# Altium integrated library Maxim Microcontroller.IntLib: 169 symbols (part 2 of 6)
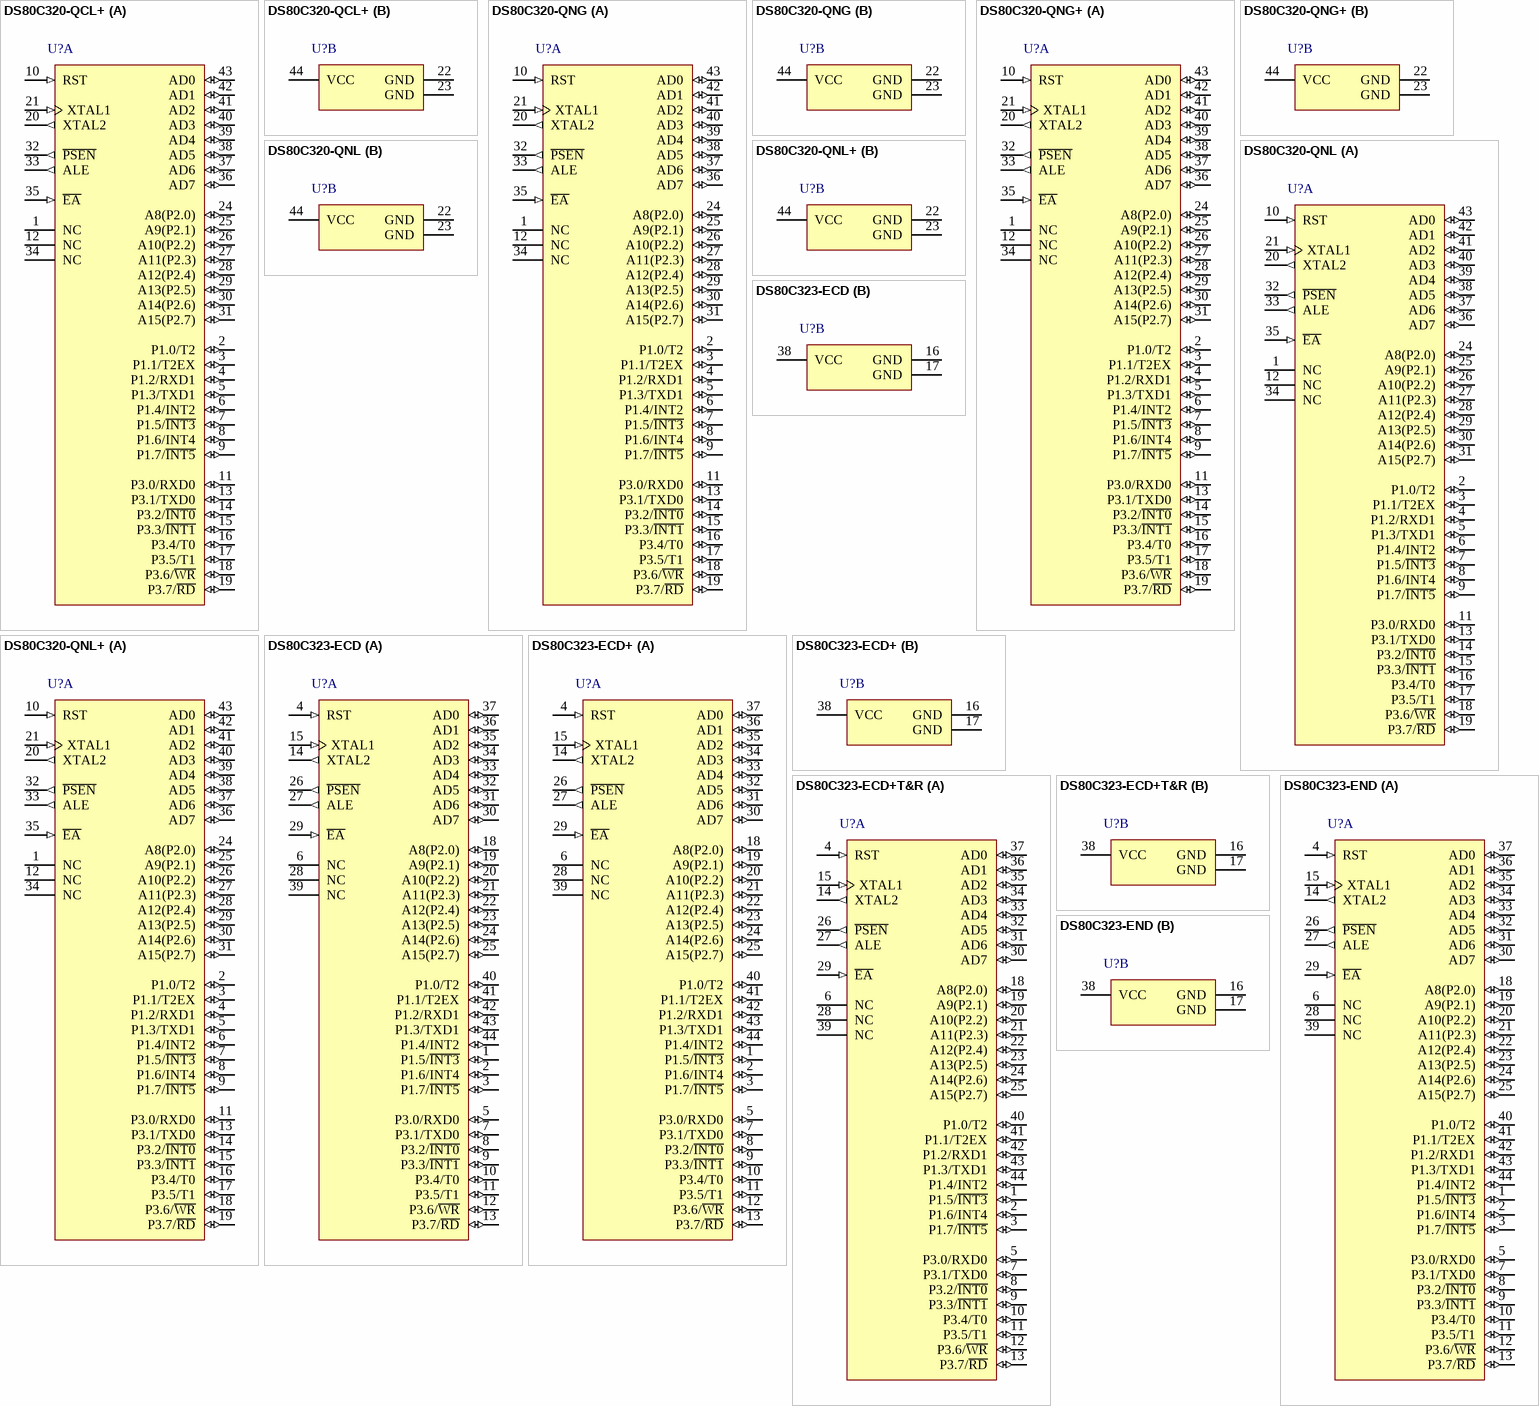
[diagram p25: symbols DS80C320-QCL+ to DS80C323-END]

## DS80C323-ECD+
designator U?
8-bit High-Speed/Low-Power Microcontroller, 18 MHz Max. Clock Speed, 44-pin TQFP, 0° to + 70° C, Pb-Free; DatasheetVersion: 1/05/2009; PackageVersion: revB, 2010; PackageReference: C44+2; PackageDescription: 44-Pin Thin Quad Flatpack, 10 x 10 x 1.0 mm Body, 0.8 mm Pitch, TQFP, Pb-Free; ComponentLink1Description: Manufacturer URL; ComponentLink1URL: www.maxim-ic.com; ComponentLink2Description: Datasheet; ComponentLink2URL: http://datasheets.maxim-ic.com/en/ds/DS80C320-DS80C323.pdf
footprint C44+2_N (Thin QFP, 44-Leads, Body 10x10mm, Pitch 0.8mm, IPC Medium Density)
footprint C44+2_L (Thin QFP, 44-Leads, Body 10x10mm, Pitch 0.8mm, IPC High Density)
footprint C44+2_M (Thin QFP, 44-Leads, Body 10x10mm, Pitch 0.8mm, IPC Low Density)
part A pins: 1 P1.5/~{INT3} (io), 2 P1.6/INT4 (io), 3 P1.7/~{INT5} (io), 4 RST (in), 5 P3.0/RXD0 (io), 6 NC, 7 P3.1/TXD0 (io), 8 P3.2/~{INT0} (io), 9 P3.3/~{INT1} (io), 10 P3.4/T0 (io), 11 P3.5/T1 (io), 12 P3.6/~{WR} (io), 13 P3.7/~{RD} (io), 14 XTAL2 (out), 15 XTAL1 (in), 18 A8(P2.0) (io), 19 A9(P2.1) (io), 20 A10(P2.2) (io), 21 A11(P2.3) (io), 22 A12(P2.4) (io), 23 A13(P2.5) (io), 24 A14(P2.6) (io), 25 A15(P2.7) (io), 26 ~{PSEN} (out), 27 ALE (out), 28 NC, 29 ~{EA} (in), 30 AD7 (io), 31 AD6 (io), 32 AD5 (io), 33 AD4 (io), 34 AD3 (io), 35 AD2 (io), 36 AD1 (io), 37 AD0 (io), 39 NC, 40 P1.0/T2 (io), 41 P1.1/T2EX (io), 42 P1.2/RXD1 (io), 43 P1.3/TXD1 (io), 44 P1.4/INT2 (io)
part B pins: 16 GND (power), 17 GND (power), 38 VCC (power)

## DS80C323-ECD+T&R
designator U?
8-bit High-Speed/Low-Power Microcontroller, 18 MHz Max. Clock Speed, 44-pin TQFP, 0° to + 70° C, Pb-Free, Tape and Reel; DatasheetVersion: 1/05/2009; PackageVersion: revB, 2010; PackageReference: C44+2; PackageDescription: 44-Pin Thin Quad Flatpack, 10 x 10 x 1.0 mm Body, 0.8 mm Pitch, TQFP, Pb-Free; ComponentLink1Description: Manufacturer URL; ComponentLink1URL: www.maxim-ic.com; ComponentLink2Description: Datasheet; ComponentLink2URL: http://datasheets.maxim-ic.com/en/ds/DS80C320-DS80C323.pdf
footprint C44+2_N (Thin QFP, 44-Leads, Body 10x10mm, Pitch 0.8mm, IPC Medium Density)
footprint C44+2_L (Thin QFP, 44-Leads, Body 10x10mm, Pitch 0.8mm, IPC High Density)
footprint C44+2_M (Thin QFP, 44-Leads, Body 10x10mm, Pitch 0.8mm, IPC Low Density)
part A pins: 1 P1.5/~{INT3} (io), 2 P1.6/INT4 (io), 3 P1.7/~{INT5} (io), 4 RST (in), 5 P3.0/RXD0 (io), 6 NC, 7 P3.1/TXD0 (io), 8 P3.2/~{INT0} (io), 9 P3.3/~{INT1} (io), 10 P3.4/T0 (io), 11 P3.5/T1 (io), 12 P3.6/~{WR} (io), 13 P3.7/~{RD} (io), 14 XTAL2 (out), 15 XTAL1 (in), 18 A8(P2.0) (io), 19 A9(P2.1) (io), 20 A10(P2.2) (io), 21 A11(P2.3) (io), 22 A12(P2.4) (io), 23 A13(P2.5) (io), 24 A14(P2.6) (io), 25 A15(P2.7) (io), 26 ~{PSEN} (out), 27 ALE (out), 28 NC, 29 ~{EA} (in), 30 AD7 (io), 31 AD6 (io), 32 AD5 (io), 33 AD4 (io), 34 AD3 (io), 35 AD2 (io), 36 AD1 (io), 37 AD0 (io), 39 NC, 40 P1.0/T2 (io), 41 P1.1/T2EX (io), 42 P1.2/RXD1 (io), 43 P1.3/TXD1 (io), 44 P1.4/INT2 (io)
part B pins: 16 GND (power), 17 GND (power), 38 VCC (power)

## DS80C323-END
designator U?
8-bit High-Speed/Low-Power Microcontroller, 18 MHz Max. Clock Speed, 44-pin TQFP, -40° to + 85° C; DatasheetVersion: 1/05/2009; PackageVersion: revB, 2010; PackageReference: C44-2; PackageDescription: 44-Pin Thin Quad Flatpack, 10 x 10 x 1.0 mm Body, 0.8 mm Pitch, TQFP; ComponentLink1Description: Manufacturer URL; ComponentLink1URL: www.maxim-ic.com; ComponentLink2Description: Datasheet; ComponentLink2URL: http://datasheets.maxim-ic.com/en/ds/DS80C320-DS80C323.pdf
footprint C44-2_N (Thin QFP, 44-Leads, Body 10x10mm, Pitch 0.8mm, IPC Medium Density)
footprint C44-2_L (Thin QFP, 44-Leads, Body 10x10mm, Pitch 0.8mm, IPC High Density)
footprint C44-2_M (Thin QFP, 44-Leads, Body 10x10mm, Pitch 0.8mm, IPC Low Density)
part A pins: 1 P1.5/~{INT3} (io), 2 P1.6/INT4 (io), 3 P1.7/~{INT5} (io), 4 RST (in), 5 P3.0/RXD0 (io), 6 NC, 7 P3.1/TXD0 (io), 8 P3.2/~{INT0} (io), 9 P3.3/~{INT1} (io), 10 P3.4/T0 (io), 11 P3.5/T1 (io), 12 P3.6/~{WR} (io), 13 P3.7/~{RD} (io), 14 XTAL2 (out), 15 XTAL1 (in), 18 A8(P2.0) (io), 19 A9(P2.1) (io), 20 A10(P2.2) (io), 21 A11(P2.3) (io), 22 A12(P2.4) (io), 23 A13(P2.5) (io), 24 A14(P2.6) (io), 25 A15(P2.7) (io), 26 ~{PSEN} (out), 27 ALE (out), 28 NC, 29 ~{EA} (in), 30 AD7 (io), 31 AD6 (io), 32 AD5 (io), 33 AD4 (io), 34 AD3 (io), 35 AD2 (io), 36 AD1 (io), 37 AD0 (io), 39 NC, 40 P1.0/T2 (io), 41 P1.1/T2EX (io), 42 P1.2/RXD1 (io), 43 P1.3/TXD1 (io), 44 P1.4/INT2 (io)
part B pins: 16 GND (power), 17 GND (power), 38 VCC (power)

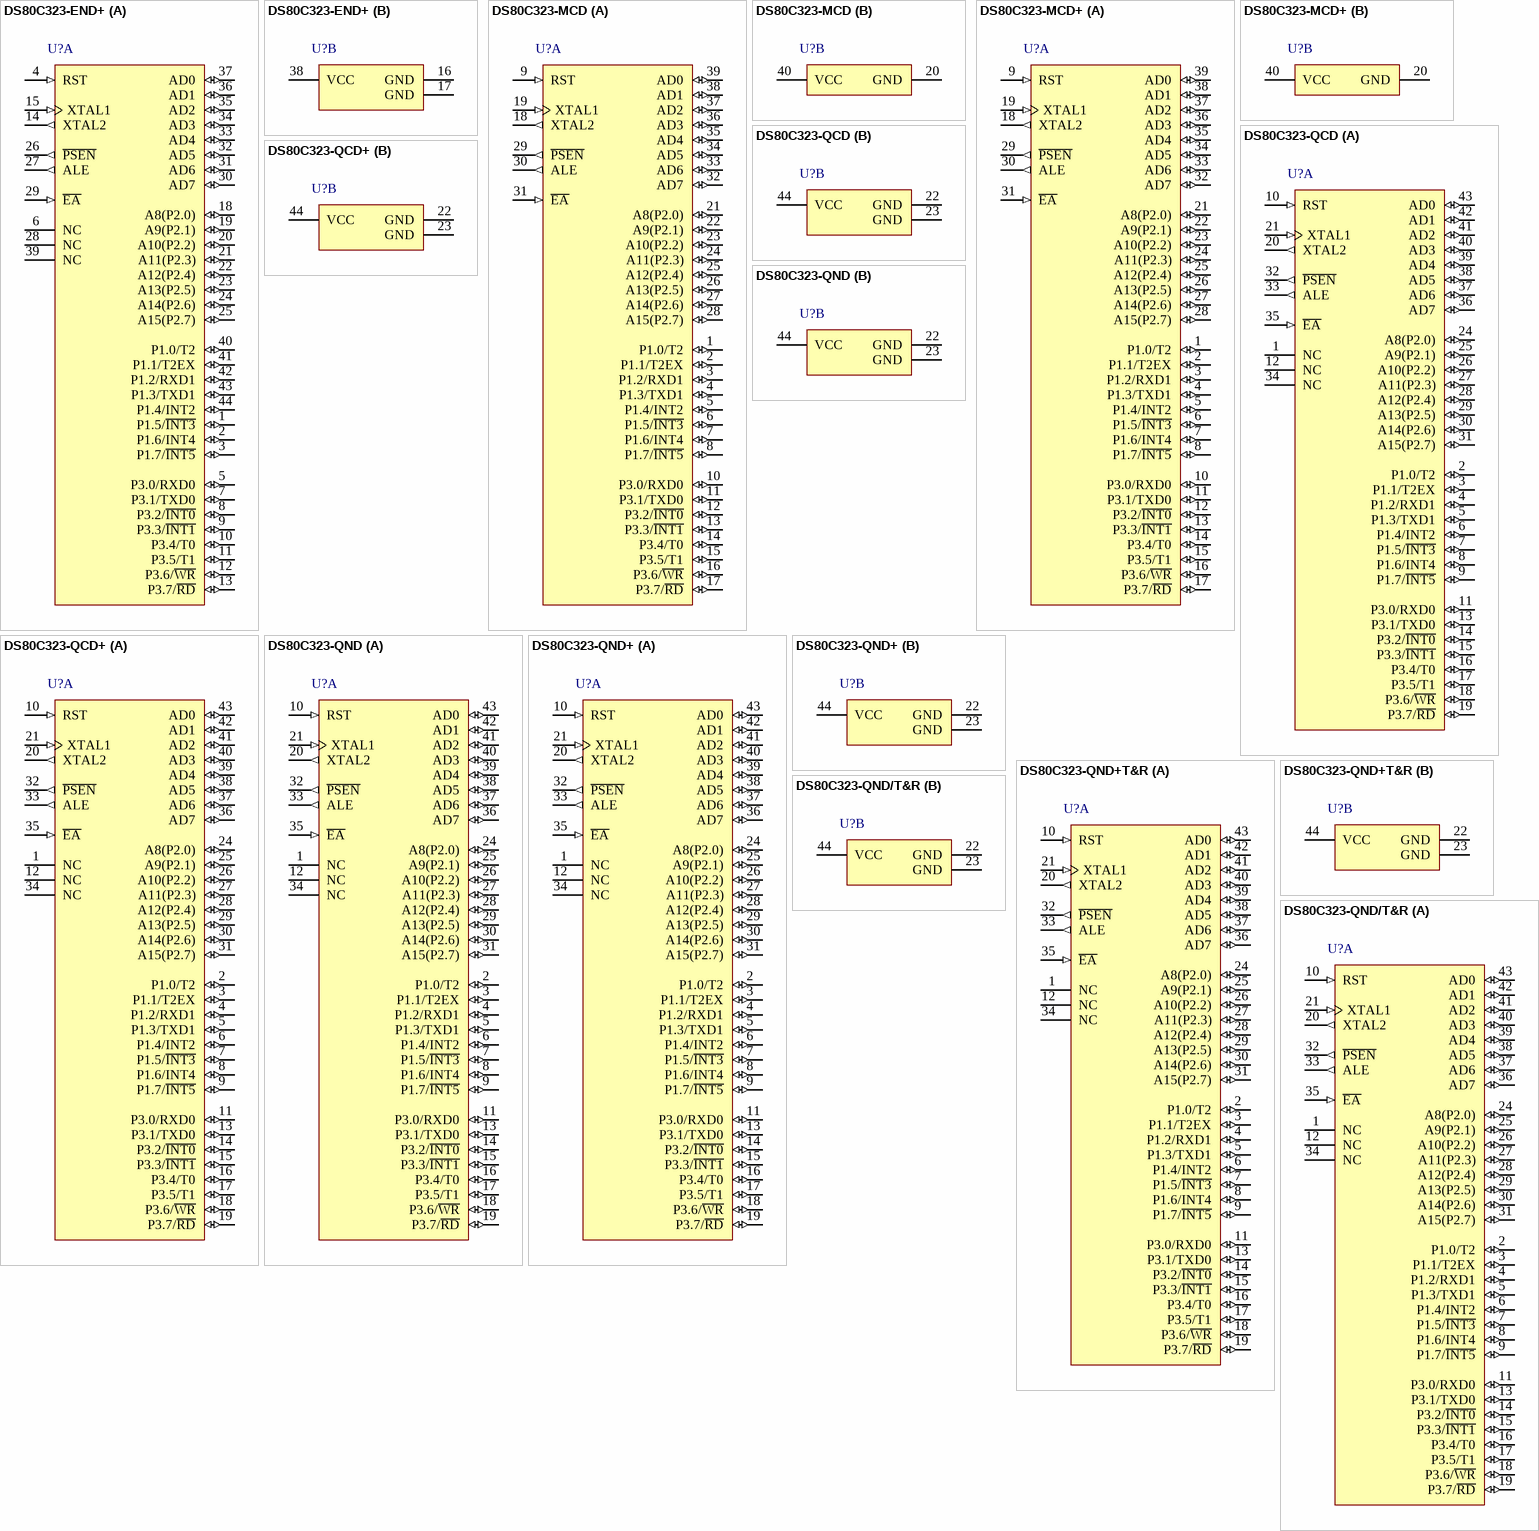
[diagram p4: symbols DS80C323-END+ to DS80C323-QND/T&R]

## DS80C323-END+
designator U?
8-bit High-Speed/Low-Power Microcontroller, 18 MHz Max. Clock Speed, 44-pin TQFP, -40° to + 85° C, Pb-Free; DatasheetVersion: 1/05/2009; PackageVersion: revB, 2010; PackageReference: C44+2; PackageDescription: 44-Pin Thin Quad Flatpack, 10 x 10 x 1.0 mm Body, 0.8 mm Pitch, TQFP, Pb-Free; ComponentLink1Description: Manufacturer URL; ComponentLink1URL: www.maxim-ic.com; ComponentLink2Description: Datasheet; ComponentLink2URL: http://datasheets.maxim-ic.com/en/ds/DS80C320-DS80C323.pdf
footprint C44+2_N (Thin QFP, 44-Leads, Body 10x10mm, Pitch 0.8mm, IPC Medium Density)
footprint C44+2_L (Thin QFP, 44-Leads, Body 10x10mm, Pitch 0.8mm, IPC High Density)
footprint C44+2_M (Thin QFP, 44-Leads, Body 10x10mm, Pitch 0.8mm, IPC Low Density)
part A pins: 1 P1.5/~{INT3} (io), 2 P1.6/INT4 (io), 3 P1.7/~{INT5} (io), 4 RST (in), 5 P3.0/RXD0 (io), 6 NC, 7 P3.1/TXD0 (io), 8 P3.2/~{INT0} (io), 9 P3.3/~{INT1} (io), 10 P3.4/T0 (io), 11 P3.5/T1 (io), 12 P3.6/~{WR} (io), 13 P3.7/~{RD} (io), 14 XTAL2 (out), 15 XTAL1 (in), 18 A8(P2.0) (io), 19 A9(P2.1) (io), 20 A10(P2.2) (io), 21 A11(P2.3) (io), 22 A12(P2.4) (io), 23 A13(P2.5) (io), 24 A14(P2.6) (io), 25 A15(P2.7) (io), 26 ~{PSEN} (out), 27 ALE (out), 28 NC, 29 ~{EA} (in), 30 AD7 (io), 31 AD6 (io), 32 AD5 (io), 33 AD4 (io), 34 AD3 (io), 35 AD2 (io), 36 AD1 (io), 37 AD0 (io), 39 NC, 40 P1.0/T2 (io), 41 P1.1/T2EX (io), 42 P1.2/RXD1 (io), 43 P1.3/TXD1 (io), 44 P1.4/INT2 (io)
part B pins: 16 GND (power), 17 GND (power), 38 VCC (power)

## DS80C323-MCD
designator U?
8-bit High-Speed/Low-Power Microcontroller, 18 MHz Max. Clock Speed, 40-pin Plastic DIP, 0° to + 70° C; DatasheetVersion: 1/05/2009; PackageVersion: revD, 2011; PackageReference: P40-1; PackageDescription: 40-Pin Plastic Dual-In-Line, 0.6in Wide, PDIP(W); Code_JEDEC: MS-011-AC; ComponentLink1Description: Manufacturer URL; ComponentLink1URL: www.maxim-ic.com; ComponentLink2Description: Datasheet; ComponentLink2URL: http://datasheets.maxim-ic.com/en/ds/DS80C320-DS80C323.pdf
footprint P40-1 (DIP, 40-Leads, Row Spacing 15.24mm, Pitch 2.54mm, Body 52.1x14mm)
part A pins: 1 P1.0/T2 (io), 2 P1.1/T2EX (io), 3 P1.2/RXD1 (io), 4 P1.3/TXD1 (io), 5 P1.4/INT2 (io), 6 P1.5/~{INT3} (io), 7 P1.6/INT4 (io), 8 P1.7/~{INT5} (io), 9 RST (in), 10 P3.0/RXD0 (io), 11 P3.1/TXD0 (io), 12 P3.2/~{INT0} (io), 13 P3.3/~{INT1} (io), 14 P3.4/T0 (io), 15 P3.5/T1 (io), 16 P3.6/~{WR} (io), 17 P3.7/~{RD} (io), 18 XTAL2 (out), 19 XTAL1 (in), 21 A8(P2.0) (io), 22 A9(P2.1) (io), 23 A10(P2.2) (io), 24 A11(P2.3) (io), 25 A12(P2.4) (io), 26 A13(P2.5) (io), 27 A14(P2.6) (io), 28 A15(P2.7) (io), 29 ~{PSEN} (out), 30 ALE (out), 31 ~{EA} (in), 32 AD7 (io), 33 AD6 (io), 34 AD5 (io), 35 AD4 (io), 36 AD3 (io), 37 AD2 (io), 38 AD1 (io), 39 AD0 (io)
part B pins: 20 GND (power), 40 VCC (power)

## DS80C323-MCD+
designator U?
8-bit High-Speed/Low-Power Microcontroller, 18 MHz Max. Clock Speed, 40-pin Plastic DIP, 0° to + 70° C, Pb-Free; DatasheetVersion: 1/05/2009; PackageVersion: revD, 2011; PackageReference: P40+1; PackageDescription: 40-Pin Plastic Dual-In-Line, 0.6in Wide, PDIP(W), Pb-Free; Code_JEDEC: MS-011-AC; ComponentLink1Description: Manufacturer URL; ComponentLink1URL: www.maxim-ic.com; ComponentLink2Description: Datasheet; ComponentLink2URL: http://datasheets.maxim-ic.com/en/ds/DS80C320-DS80C323.pdf
footprint P40+1 (DIP, 40-Leads, Row Spacing 15.24mm, Pitch 2.54mm, Body 52.1x14mm)
part A pins: 1 P1.0/T2 (io), 2 P1.1/T2EX (io), 3 P1.2/RXD1 (io), 4 P1.3/TXD1 (io), 5 P1.4/INT2 (io), 6 P1.5/~{INT3} (io), 7 P1.6/INT4 (io), 8 P1.7/~{INT5} (io), 9 RST (in), 10 P3.0/RXD0 (io), 11 P3.1/TXD0 (io), 12 P3.2/~{INT0} (io), 13 P3.3/~{INT1} (io), 14 P3.4/T0 (io), 15 P3.5/T1 (io), 16 P3.6/~{WR} (io), 17 P3.7/~{RD} (io), 18 XTAL2 (out), 19 XTAL1 (in), 21 A8(P2.0) (io), 22 A9(P2.1) (io), 23 A10(P2.2) (io), 24 A11(P2.3) (io), 25 A12(P2.4) (io), 26 A13(P2.5) (io), 27 A14(P2.6) (io), 28 A15(P2.7) (io), 29 ~{PSEN} (out), 30 ALE (out), 31 ~{EA} (in), 32 AD7 (io), 33 AD6 (io), 34 AD5 (io), 35 AD4 (io), 36 AD3 (io), 37 AD2 (io), 38 AD1 (io), 39 AD0 (io)
part B pins: 20 GND (power), 40 VCC (power)

## DS80C323-QCD
designator U?
8-bit High-Speed/Low-Power Microcontroller, 18 MHz Max. Clock Speed, 44-pin PLCC, 0° to + 70° C; DatasheetVersion: 1/05/2009; PackageVersion: revE, 2009; PackageReference: Q44-1; PackageDescription: 44-Pin Plastic Leaded Chip Carrier 1.27 mm Pitch, PLCC; Code_JEDEC: MO-047-AC; Code_IPC: PLCC-44; ComponentLink1Description: Manufacturer URL; ComponentLink1URL: www.maxim-ic.com; ComponentLink2Description: Datasheet; ComponentLink2URL: http://datasheets.maxim-ic.com/en/ds/DS80C320-DS80C323.pdf
footprint Q44-1_N (Leaded Chip Carrier, 44-Leads, Body 16.6x16.6mm, Pitch 1.27mm, IPC Medium Density)
footprint Q44-1_L (Leaded Chip Carrier, 44-Leads, Body 16.6x16.6mm, Pitch 1.27mm, IPC High Density)
footprint Q44-1_M (Leaded Chip Carrier, 44-Leads, Body 16.6x16.6mm, Pitch 1.27mm, IPC Low Density)
part A pins: 1 NC, 2 P1.0/T2 (io), 3 P1.1/T2EX (io), 4 P1.2/RXD1 (io), 5 P1.3/TXD1 (io), 6 P1.4/INT2 (io), 7 P1.5/~{INT3} (io), 8 P1.6/INT4 (io), 9 P1.7/~{INT5} (io), 10 RST (in), 11 P3.0/RXD0 (io), 12 NC, 13 P3.1/TXD0 (io), 14 P3.2/~{INT0} (io), 15 P3.3/~{INT1} (io), 16 P3.4/T0 (io), 17 P3.5/T1 (io), 18 P3.6/~{WR} (io), 19 P3.7/~{RD} (io), 20 XTAL2 (out), 21 XTAL1 (in), 24 A8(P2.0) (io), 25 A9(P2.1) (io), 26 A10(P2.2) (io), 27 A11(P2.3) (io), 28 A12(P2.4) (io), 29 A13(P2.5) (io), 30 A14(P2.6) (io), 31 A15(P2.7) (io), 32 ~{PSEN} (out), 33 ALE (out), 34 NC, 35 ~{EA} (in), 36 AD7 (io), 37 AD6 (io), 38 AD5 (io), 39 AD4 (io), 40 AD3 (io), 41 AD2 (io), 42 AD1 (io), 43 AD0 (io)
part B pins: 22 GND (power), 23 GND (power), 44 VCC (power)

## DS80C323-QCD+
designator U?
8-bit High-Speed/Low-Power Microcontroller, 18 MHz Max. Clock Speed, 44-pin PLCC, 0° to + 70° C, Pb-Free; DatasheetVersion: 1/05/2009; PackageVersion: revE, 2009; PackageReference: Q44+1; PackageDescription: 44-Pin Plastic Leaded Chip Carrier 1.27 mm Pitch, PLCC, Pb-Free; Code_JEDEC: MO-047-AC; Code_IPC: PLCC-44; ComponentLink1Description: Manufacturer URL; ComponentLink1URL: www.maxim-ic.com; ComponentLink2Description: Datasheet; ComponentLink2URL: http://datasheets.maxim-ic.com/en/ds/DS80C320-DS80C323.pdf
footprint Q44+1_N (Leaded Chip Carrier, 44-Leads, Body 16.6x16.6mm, Pitch 1.27mm, IPC Medium Density)
footprint Q44+1_L (Leaded Chip Carrier, 44-Leads, Body 16.6x16.6mm, Pitch 1.27mm, IPC High Density)
footprint Q44+1_M (Leaded Chip Carrier, 44-Leads, Body 16.6x16.6mm, Pitch 1.27mm, IPC Low Density)
part A pins: 1 NC, 2 P1.0/T2 (io), 3 P1.1/T2EX (io), 4 P1.2/RXD1 (io), 5 P1.3/TXD1 (io), 6 P1.4/INT2 (io), 7 P1.5/~{INT3} (io), 8 P1.6/INT4 (io), 9 P1.7/~{INT5} (io), 10 RST (in), 11 P3.0/RXD0 (io), 12 NC, 13 P3.1/TXD0 (io), 14 P3.2/~{INT0} (io), 15 P3.3/~{INT1} (io), 16 P3.4/T0 (io), 17 P3.5/T1 (io), 18 P3.6/~{WR} (io), 19 P3.7/~{RD} (io), 20 XTAL2 (out), 21 XTAL1 (in), 24 A8(P2.0) (io), 25 A9(P2.1) (io), 26 A10(P2.2) (io), 27 A11(P2.3) (io), 28 A12(P2.4) (io), 29 A13(P2.5) (io), 30 A14(P2.6) (io), 31 A15(P2.7) (io), 32 ~{PSEN} (out), 33 ALE (out), 34 NC, 35 ~{EA} (in), 36 AD7 (io), 37 AD6 (io), 38 AD5 (io), 39 AD4 (io), 40 AD3 (io), 41 AD2 (io), 42 AD1 (io), 43 AD0 (io)
part B pins: 22 GND (power), 23 GND (power), 44 VCC (power)

## DS80C323-QND
designator U?
8-bit High-Speed/Low-Power Microcontroller, 18 MHz Max. Clock Speed, 44-pin PLCC, -40° to + 85° C; DatasheetVersion: 1/05/2009; PackageVersion: revE, 2009; PackageReference: Q44-1; PackageDescription: 44-Pin Plastic Leaded Chip Carrier 1.27 mm Pitch, PLCC; Code_JEDEC: MO-047-AC; Code_IPC: PLCC-44; ComponentLink1Description: Manufacturer URL; ComponentLink1URL: www.maxim-ic.com; ComponentLink2Description: Datasheet; ComponentLink2URL: http://datasheets.maxim-ic.com/en/ds/DS80C320-DS80C323.pdf
footprint Q44-1_N (Leaded Chip Carrier, 44-Leads, Body 16.6x16.6mm, Pitch 1.27mm, IPC Medium Density)
footprint Q44-1_L (Leaded Chip Carrier, 44-Leads, Body 16.6x16.6mm, Pitch 1.27mm, IPC High Density)
footprint Q44-1_M (Leaded Chip Carrier, 44-Leads, Body 16.6x16.6mm, Pitch 1.27mm, IPC Low Density)
part A pins: 1 NC, 2 P1.0/T2 (io), 3 P1.1/T2EX (io), 4 P1.2/RXD1 (io), 5 P1.3/TXD1 (io), 6 P1.4/INT2 (io), 7 P1.5/~{INT3} (io), 8 P1.6/INT4 (io), 9 P1.7/~{INT5} (io), 10 RST (in), 11 P3.0/RXD0 (io), 12 NC, 13 P3.1/TXD0 (io), 14 P3.2/~{INT0} (io), 15 P3.3/~{INT1} (io), 16 P3.4/T0 (io), 17 P3.5/T1 (io), 18 P3.6/~{WR} (io), 19 P3.7/~{RD} (io), 20 XTAL2 (out), 21 XTAL1 (in), 24 A8(P2.0) (io), 25 A9(P2.1) (io), 26 A10(P2.2) (io), 27 A11(P2.3) (io), 28 A12(P2.4) (io), 29 A13(P2.5) (io), 30 A14(P2.6) (io), 31 A15(P2.7) (io), 32 ~{PSEN} (out), 33 ALE (out), 34 NC, 35 ~{EA} (in), 36 AD7 (io), 37 AD6 (io), 38 AD5 (io), 39 AD4 (io), 40 AD3 (io), 41 AD2 (io), 42 AD1 (io), 43 AD0 (io)
part B pins: 22 GND (power), 23 GND (power), 44 VCC (power)

## DS80C323-QND+
designator U?
8-bit High-Speed/Low-Power Microcontroller, 18 MHz Max. Clock Speed, 44-pin PLCC, -40° to + 85° C, Pb-Free; DatasheetVersion: 1/05/2009; PackageVersion: revE, 2009; PackageReference: Q44+1; PackageDescription: 44-Pin Plastic Leaded Chip Carrier 1.27 mm Pitch, PLCC, Pb-Free; Code_JEDEC: MO-047-AC; Code_IPC: PLCC-44; ComponentLink1Description: Manufacturer URL; ComponentLink1URL: www.maxim-ic.com; ComponentLink2Description: Datasheet; ComponentLink2URL: http://datasheets.maxim-ic.com/en/ds/DS80C320-DS80C323.pdf
footprint Q44+1_N (Leaded Chip Carrier, 44-Leads, Body 16.6x16.6mm, Pitch 1.27mm, IPC Medium Density)
footprint Q44+1_L (Leaded Chip Carrier, 44-Leads, Body 16.6x16.6mm, Pitch 1.27mm, IPC High Density)
footprint Q44+1_M (Leaded Chip Carrier, 44-Leads, Body 16.6x16.6mm, Pitch 1.27mm, IPC Low Density)
part A pins: 1 NC, 2 P1.0/T2 (io), 3 P1.1/T2EX (io), 4 P1.2/RXD1 (io), 5 P1.3/TXD1 (io), 6 P1.4/INT2 (io), 7 P1.5/~{INT3} (io), 8 P1.6/INT4 (io), 9 P1.7/~{INT5} (io), 10 RST (in), 11 P3.0/RXD0 (io), 12 NC, 13 P3.1/TXD0 (io), 14 P3.2/~{INT0} (io), 15 P3.3/~{INT1} (io), 16 P3.4/T0 (io), 17 P3.5/T1 (io), 18 P3.6/~{WR} (io), 19 P3.7/~{RD} (io), 20 XTAL2 (out), 21 XTAL1 (in), 24 A8(P2.0) (io), 25 A9(P2.1) (io), 26 A10(P2.2) (io), 27 A11(P2.3) (io), 28 A12(P2.4) (io), 29 A13(P2.5) (io), 30 A14(P2.6) (io), 31 A15(P2.7) (io), 32 ~{PSEN} (out), 33 ALE (out), 34 NC, 35 ~{EA} (in), 36 AD7 (io), 37 AD6 (io), 38 AD5 (io), 39 AD4 (io), 40 AD3 (io), 41 AD2 (io), 42 AD1 (io), 43 AD0 (io)
part B pins: 22 GND (power), 23 GND (power), 44 VCC (power)

## DS80C323-QND+T&R
designator U?
8-bit High-Speed/Low-Power Microcontroller, 18 MHz Max. Clock Speed, 44-pin PLCC, -40° to + 85° C, Pb-Free, Tape and Reel; DatasheetVersion: 1/05/2009; PackageVersion: revE, 2009; PackageReference: Q44+1; PackageDescription: 44-Pin Plastic Leaded Chip Carrier 1.27 mm Pitch, PLCC, Pb-Free; Code_JEDEC: MO-047-AC; Code_IPC: PLCC-44; ComponentLink1Description: Manufacturer URL; ComponentLink1URL: www.maxim-ic.com; ComponentLink2Description: Datasheet; ComponentLink2URL: http://datasheets.maxim-ic.com/en/ds/DS80C320-DS80C323.pdf
footprint Q44+1_N (Leaded Chip Carrier, 44-Leads, Body 16.6x16.6mm, Pitch 1.27mm, IPC Medium Density)
footprint Q44+1_L (Leaded Chip Carrier, 44-Leads, Body 16.6x16.6mm, Pitch 1.27mm, IPC High Density)
footprint Q44+1_M (Leaded Chip Carrier, 44-Leads, Body 16.6x16.6mm, Pitch 1.27mm, IPC Low Density)
part A pins: 1 NC, 2 P1.0/T2 (io), 3 P1.1/T2EX (io), 4 P1.2/RXD1 (io), 5 P1.3/TXD1 (io), 6 P1.4/INT2 (io), 7 P1.5/~{INT3} (io), 8 P1.6/INT4 (io), 9 P1.7/~{INT5} (io), 10 RST (in), 11 P3.0/RXD0 (io), 12 NC, 13 P3.1/TXD0 (io), 14 P3.2/~{INT0} (io), 15 P3.3/~{INT1} (io), 16 P3.4/T0 (io), 17 P3.5/T1 (io), 18 P3.6/~{WR} (io), 19 P3.7/~{RD} (io), 20 XTAL2 (out), 21 XTAL1 (in), 24 A8(P2.0) (io), 25 A9(P2.1) (io), 26 A10(P2.2) (io), 27 A11(P2.3) (io), 28 A12(P2.4) (io), 29 A13(P2.5) (io), 30 A14(P2.6) (io), 31 A15(P2.7) (io), 32 ~{PSEN} (out), 33 ALE (out), 34 NC, 35 ~{EA} (in), 36 AD7 (io), 37 AD6 (io), 38 AD5 (io), 39 AD4 (io), 40 AD3 (io), 41 AD2 (io), 42 AD1 (io), 43 AD0 (io)
part B pins: 22 GND (power), 23 GND (power), 44 VCC (power)

## DS80C323-QND/T&R
designator U?
8-bit High-Speed/Low-Power Microcontroller, 18 MHz Max. Clock Speed, 44-pin PLCC, -40° to + 85° C, Pb-Free, Tape and Reel; DatasheetVersion: 1/05/2009; PackageVersion: revE, 2009; PackageReference: Q44+1; PackageDescription: 44-Pin Plastic Leaded Chip Carrier 1.27 mm Pitch, PLCC, Pb-Free; Code_JEDEC: MO-047-AC; Code_IPC: PLCC-44; ComponentLink1Description: Manufacturer URL; ComponentLink1URL: www.maxim-ic.com; ComponentLink2Description: Datasheet; ComponentLink2URL: http://datasheets.maxim-ic.com/en/ds/DS80C320-DS80C323.pdf
footprint Q44+1_N (Leaded Chip Carrier, 44-Leads, Body 16.6x16.6mm, Pitch 1.27mm, IPC Medium Density)
footprint Q44+1_L (Leaded Chip Carrier, 44-Leads, Body 16.6x16.6mm, Pitch 1.27mm, IPC High Density)
footprint Q44+1_M (Leaded Chip Carrier, 44-Leads, Body 16.6x16.6mm, Pitch 1.27mm, IPC Low Density)
part A pins: 1 NC, 2 P1.0/T2 (io), 3 P1.1/T2EX (io), 4 P1.2/RXD1 (io), 5 P1.3/TXD1 (io), 6 P1.4/INT2 (io), 7 P1.5/~{INT3} (io), 8 P1.6/INT4 (io), 9 P1.7/~{INT5} (io), 10 RST (in), 11 P3.0/RXD0 (io), 12 NC, 13 P3.1/TXD0 (io), 14 P3.2/~{INT0} (io), 15 P3.3/~{INT1} (io), 16 P3.4/T0 (io), 17 P3.5/T1 (io), 18 P3.6/~{WR} (io), 19 P3.7/~{RD} (io), 20 XTAL2 (out), 21 XTAL1 (in), 24 A8(P2.0) (io), 25 A9(P2.1) (io), 26 A10(P2.2) (io), 27 A11(P2.3) (io), 28 A12(P2.4) (io), 29 A13(P2.5) (io), 30 A14(P2.6) (io), 31 A15(P2.7) (io), 32 ~{PSEN} (out), 33 ALE (out), 34 NC, 35 ~{EA} (in), 36 AD7 (io), 37 AD6 (io), 38 AD5 (io), 39 AD4 (io), 40 AD3 (io), 41 AD2 (io), 42 AD1 (io), 43 AD0 (io)
part B pins: 22 GND (power), 23 GND (power), 44 VCC (power)

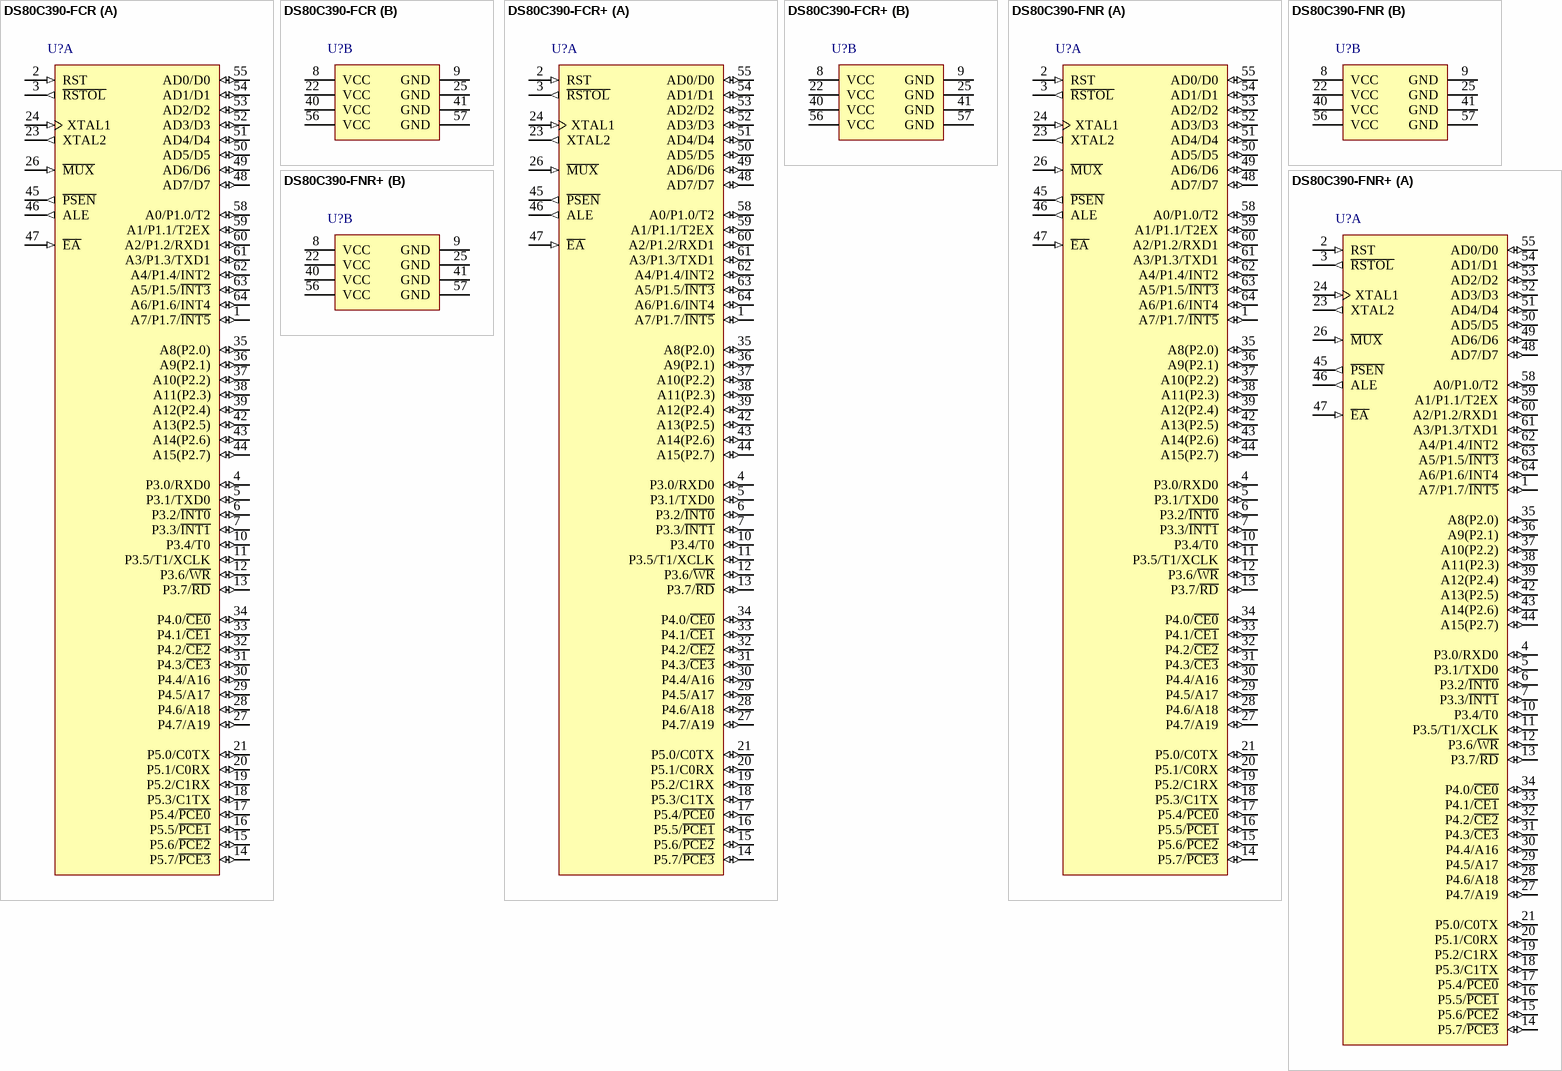
[diagram p5: symbols DS80C390-FCR to DS80C390-FNR+]

## DS80C390-FCR
designator U?
8-bit Dual CAN High-Speed Microprocessor, 40 MHz Max. Clock Speed, 64-pin LQFP, 0° to + 70° C; DatasheetVersion: 1/04/2009; PackageVersion: revG, 2009; PackageReference: C64-8; PackageDescription: 64-Pin Low Quad Flatpack, 10 x 10 x 1.4 mm Body, 0.5 mm Pitch, LQFP; Code_JEDEC: MS-026-BCD; ComponentLink1Description: Manufacturer URL; ComponentLink1URL: www.maxim-ic.com; ComponentLink2Description: Datasheet; ComponentLink2URL: http://datasheets.maxim-ic.com/en/ds/DS80C390.pdf
footprint C64-8_N (Thin QFP, 64-Leads, Body 10x10mm, Pitch 0.5mm, IPC Medium Density)
footprint C64-8_L (Thin QFP, 64-Leads, Body 10x10mm, Pitch 0.5mm, IPC High Density)
footprint C64-8_M (Thin QFP, 64-Leads, Body 10x10mm, Pitch 0.5mm, IPC Low Density)
part A pins: 1 A7/P1.7/~{INT5} (io), 2 RST (in), 3 ~{RSTOL} (out), 4 P3.0/RXD0 (io), 5 P3.1/TXD0 (io), 6 P3.2/~{INT0} (io), 7 P3.3/~{INT1} (io), 10 P3.4/T0 (io), 11 P3.5/T1/XCLK (io), 12 P3.6/~{WR} (io), 13 P3.7/~{RD} (io), 14 P5.7/~{PCE3} (io), 15 P5.6/~{PCE2} (io), 16 P5.5/~{PCE1} (io), 17 P5.4/~{PCE0} (io), 18 P5.3/C1TX (io), 19 P5.2/C1RX (io), 20 P5.1/C0RX (io), 21 P5.0/C0TX (io), 23 XTAL2 (out), 24 XTAL1 (in), 26 ~{MUX} (in), 27 P4.7/A19 (io), 28 P4.6/A18 (io), 29 P4.5/A17 (io), 30 P4.4/A16 (io), 31 P4.3/~{CE3} (io), 32 P4.2/~{CE2} (io), 33 P4.1/~{CE1} (io), 34 P4.0/~{CE0} (io), 35 A8(P2.0) (io), 36 A9(P2.1) (io), 37 A10(P2.2) (io), 38 A11(P2.3) (io), 39 A12(P2.4) (io), 42 A13(P2.5) (io), 43 A14(P2.6) (io), 44 A15(P2.7) (io), 45 ~{PSEN} (out), 46 ALE (out), 47 ~{EA} (in), 48 AD7/D7 (io), 49 AD6/D6 (io), 50 AD5/D5 (io), 51 AD4/D4 (io), 52 AD3/D3 (io), 53 AD2/D2 (io), 54 AD1/D1 (io), 55 AD0/D0 (io), 58 A0/P1.0/T2 (io), 59 A1/P1.1/T2EX (io), 60 A2/P1.2/RXD1 (io), 61 A3/P1.3/TXD1 (io), 62 A4/P1.4/INT2 (io), 63 A5/P1.5/~{INT3} (io), 64 A6/P1.6/INT4 (io)
part B pins: 8 VCC (power), 9 GND (power), 22 VCC (power), 25 GND (power), 40 VCC (power), 41 GND (power), 56 VCC (power), 57 GND (power)

## DS80C390-FCR+
designator U?
8-bit Dual CAN High-Speed Microprocessor, 40 MHz Max. Clock Speed, 64-pin LQFP, 0° to + 70° C, Pb-Free; DatasheetVersion: 1/04/2009; PackageVersion: revG, 2009; PackageReference: C64+8; PackageDescription: 64-Pin Low Quad Flatpack, 10 x 10 x 1.4 mm Body, 0.5 mm Pitch, LQFP, Pb-Free; Code_JEDEC: MS-026-BCD; ComponentLink1Description: Manufacturer URL; ComponentLink1URL: www.maxim-ic.com; ComponentLink2Description: Datasheet; ComponentLink2URL: http://datasheets.maxim-ic.com/en/ds/DS80C390.pdf
footprint C64+8_N (Thin QFP, 64-Leads, Body 10x10mm, Pitch 0.5mm, IPC Medium Density)
footprint C64+8_L (Thin QFP, 64-Leads, Body 10x10mm, Pitch 0.5mm, IPC High Density)
footprint C64+8_M (Thin QFP, 64-Leads, Body 10x10mm, Pitch 0.5mm, IPC Low Density)
part A pins: 1 A7/P1.7/~{INT5} (io), 2 RST (in), 3 ~{RSTOL} (out), 4 P3.0/RXD0 (io), 5 P3.1/TXD0 (io), 6 P3.2/~{INT0} (io), 7 P3.3/~{INT1} (io), 10 P3.4/T0 (io), 11 P3.5/T1/XCLK (io), 12 P3.6/~{WR} (io), 13 P3.7/~{RD} (io), 14 P5.7/~{PCE3} (io), 15 P5.6/~{PCE2} (io), 16 P5.5/~{PCE1} (io), 17 P5.4/~{PCE0} (io), 18 P5.3/C1TX (io), 19 P5.2/C1RX (io), 20 P5.1/C0RX (io), 21 P5.0/C0TX (io), 23 XTAL2 (out), 24 XTAL1 (in), 26 ~{MUX} (in), 27 P4.7/A19 (io), 28 P4.6/A18 (io), 29 P4.5/A17 (io), 30 P4.4/A16 (io), 31 P4.3/~{CE3} (io), 32 P4.2/~{CE2} (io), 33 P4.1/~{CE1} (io), 34 P4.0/~{CE0} (io), 35 A8(P2.0) (io), 36 A9(P2.1) (io), 37 A10(P2.2) (io), 38 A11(P2.3) (io), 39 A12(P2.4) (io), 42 A13(P2.5) (io), 43 A14(P2.6) (io), 44 A15(P2.7) (io), 45 ~{PSEN} (out), 46 ALE (out), 47 ~{EA} (in), 48 AD7/D7 (io), 49 AD6/D6 (io), 50 AD5/D5 (io), 51 AD4/D4 (io), 52 AD3/D3 (io), 53 AD2/D2 (io), 54 AD1/D1 (io), 55 AD0/D0 (io), 58 A0/P1.0/T2 (io), 59 A1/P1.1/T2EX (io), 60 A2/P1.2/RXD1 (io), 61 A3/P1.3/TXD1 (io), 62 A4/P1.4/INT2 (io), 63 A5/P1.5/~{INT3} (io), 64 A6/P1.6/INT4 (io)
part B pins: 8 VCC (power), 9 GND (power), 22 VCC (power), 25 GND (power), 40 VCC (power), 41 GND (power), 56 VCC (power), 57 GND (power)

## DS80C390-FNR
designator U?
8-bit Dual CAN High-Speed Microprocessor, 40 MHz Max. Clock Speed, 64-pin LQFP, -40° to + 85° C; DatasheetVersion: 1/04/2009; PackageVersion: revG, 2009; PackageReference: C64-8; PackageDescription: 64-Pin Low Quad Flatpack, 10 x 10 x 1.4 mm Body, 0.5 mm Pitch, LQFP; Code_JEDEC: MS-026-BCD; ComponentLink1Description: Manufacturer URL; ComponentLink1URL: www.maxim-ic.com; ComponentLink2Description: Datasheet; ComponentLink2URL: http://datasheets.maxim-ic.com/en/ds/DS80C390.pdf
footprint C64-8_N (Thin QFP, 64-Leads, Body 10x10mm, Pitch 0.5mm, IPC Medium Density)
footprint C64-8_L (Thin QFP, 64-Leads, Body 10x10mm, Pitch 0.5mm, IPC High Density)
footprint C64-8_M (Thin QFP, 64-Leads, Body 10x10mm, Pitch 0.5mm, IPC Low Density)
part A pins: 1 A7/P1.7/~{INT5} (io), 2 RST (in), 3 ~{RSTOL} (out), 4 P3.0/RXD0 (io), 5 P3.1/TXD0 (io), 6 P3.2/~{INT0} (io), 7 P3.3/~{INT1} (io), 10 P3.4/T0 (io), 11 P3.5/T1/XCLK (io), 12 P3.6/~{WR} (io), 13 P3.7/~{RD} (io), 14 P5.7/~{PCE3} (io), 15 P5.6/~{PCE2} (io), 16 P5.5/~{PCE1} (io), 17 P5.4/~{PCE0} (io), 18 P5.3/C1TX (io), 19 P5.2/C1RX (io), 20 P5.1/C0RX (io), 21 P5.0/C0TX (io), 23 XTAL2 (out), 24 XTAL1 (in), 26 ~{MUX} (in), 27 P4.7/A19 (io), 28 P4.6/A18 (io), 29 P4.5/A17 (io), 30 P4.4/A16 (io), 31 P4.3/~{CE3} (io), 32 P4.2/~{CE2} (io), 33 P4.1/~{CE1} (io), 34 P4.0/~{CE0} (io), 35 A8(P2.0) (io), 36 A9(P2.1) (io), 37 A10(P2.2) (io), 38 A11(P2.3) (io), 39 A12(P2.4) (io), 42 A13(P2.5) (io), 43 A14(P2.6) (io), 44 A15(P2.7) (io), 45 ~{PSEN} (out), 46 ALE (out), 47 ~{EA} (in), 48 AD7/D7 (io), 49 AD6/D6 (io), 50 AD5/D5 (io), 51 AD4/D4 (io), 52 AD3/D3 (io), 53 AD2/D2 (io), 54 AD1/D1 (io), 55 AD0/D0 (io), 58 A0/P1.0/T2 (io), 59 A1/P1.1/T2EX (io), 60 A2/P1.2/RXD1 (io), 61 A3/P1.3/TXD1 (io), 62 A4/P1.4/INT2 (io), 63 A5/P1.5/~{INT3} (io), 64 A6/P1.6/INT4 (io)
part B pins: 8 VCC (power), 9 GND (power), 22 VCC (power), 25 GND (power), 40 VCC (power), 41 GND (power), 56 VCC (power), 57 GND (power)

## DS80C390-FNR+
designator U?
8-bit Dual CAN High-Speed Microprocessor, 40 MHz Max. Clock Speed, 64-pin LQFP, -40° to + 85° C, Pb-Free; DatasheetVersion: 1/04/2009; PackageVersion: revG, 2009; PackageReference: C64+8; PackageDescription: 64-Pin Low Quad Flatpack, 10 x 10 x 1.4 mm Body, 0.5 mm Pitch, LQFP, Pb-Free; Code_JEDEC: MS-026-BCD; ComponentLink1Description: Manufacturer URL; ComponentLink1URL: www.maxim-ic.com; ComponentLink2Description: Datasheet; ComponentLink2URL: http://datasheets.maxim-ic.com/en/ds/DS80C390.pdf
footprint C64+8_N (Thin QFP, 64-Leads, Body 10x10mm, Pitch 0.5mm, IPC Medium Density)
footprint C64+8_L (Thin QFP, 64-Leads, Body 10x10mm, Pitch 0.5mm, IPC High Density)
footprint C64+8_M (Thin QFP, 64-Leads, Body 10x10mm, Pitch 0.5mm, IPC Low Density)
part A pins: 1 A7/P1.7/~{INT5} (io), 2 RST (in), 3 ~{RSTOL} (out), 4 P3.0/RXD0 (io), 5 P3.1/TXD0 (io), 6 P3.2/~{INT0} (io), 7 P3.3/~{INT1} (io), 10 P3.4/T0 (io), 11 P3.5/T1/XCLK (io), 12 P3.6/~{WR} (io), 13 P3.7/~{RD} (io), 14 P5.7/~{PCE3} (io), 15 P5.6/~{PCE2} (io), 16 P5.5/~{PCE1} (io), 17 P5.4/~{PCE0} (io), 18 P5.3/C1TX (io), 19 P5.2/C1RX (io), 20 P5.1/C0RX (io), 21 P5.0/C0TX (io), 23 XTAL2 (out), 24 XTAL1 (in), 26 ~{MUX} (in), 27 P4.7/A19 (io), 28 P4.6/A18 (io), 29 P4.5/A17 (io), 30 P4.4/A16 (io), 31 P4.3/~{CE3} (io), 32 P4.2/~{CE2} (io), 33 P4.1/~{CE1} (io), 34 P4.0/~{CE0} (io), 35 A8(P2.0) (io), 36 A9(P2.1) (io), 37 A10(P2.2) (io), 38 A11(P2.3) (io), 39 A12(P2.4) (io), 42 A13(P2.5) (io), 43 A14(P2.6) (io), 44 A15(P2.7) (io), 45 ~{PSEN} (out), 46 ALE (out), 47 ~{EA} (in), 48 AD7/D7 (io), 49 AD6/D6 (io), 50 AD5/D5 (io), 51 AD4/D4 (io), 52 AD3/D3 (io), 53 AD2/D2 (io), 54 AD1/D1 (io), 55 AD0/D0 (io), 58 A0/P1.0/T2 (io), 59 A1/P1.1/T2EX (io), 60 A2/P1.2/RXD1 (io), 61 A3/P1.3/TXD1 (io), 62 A4/P1.4/INT2 (io), 63 A5/P1.5/~{INT3} (io), 64 A6/P1.6/INT4 (io)
part B pins: 8 VCC (power), 9 GND (power), 22 VCC (power), 25 GND (power), 40 VCC (power), 41 GND (power), 56 VCC (power), 57 GND (power)

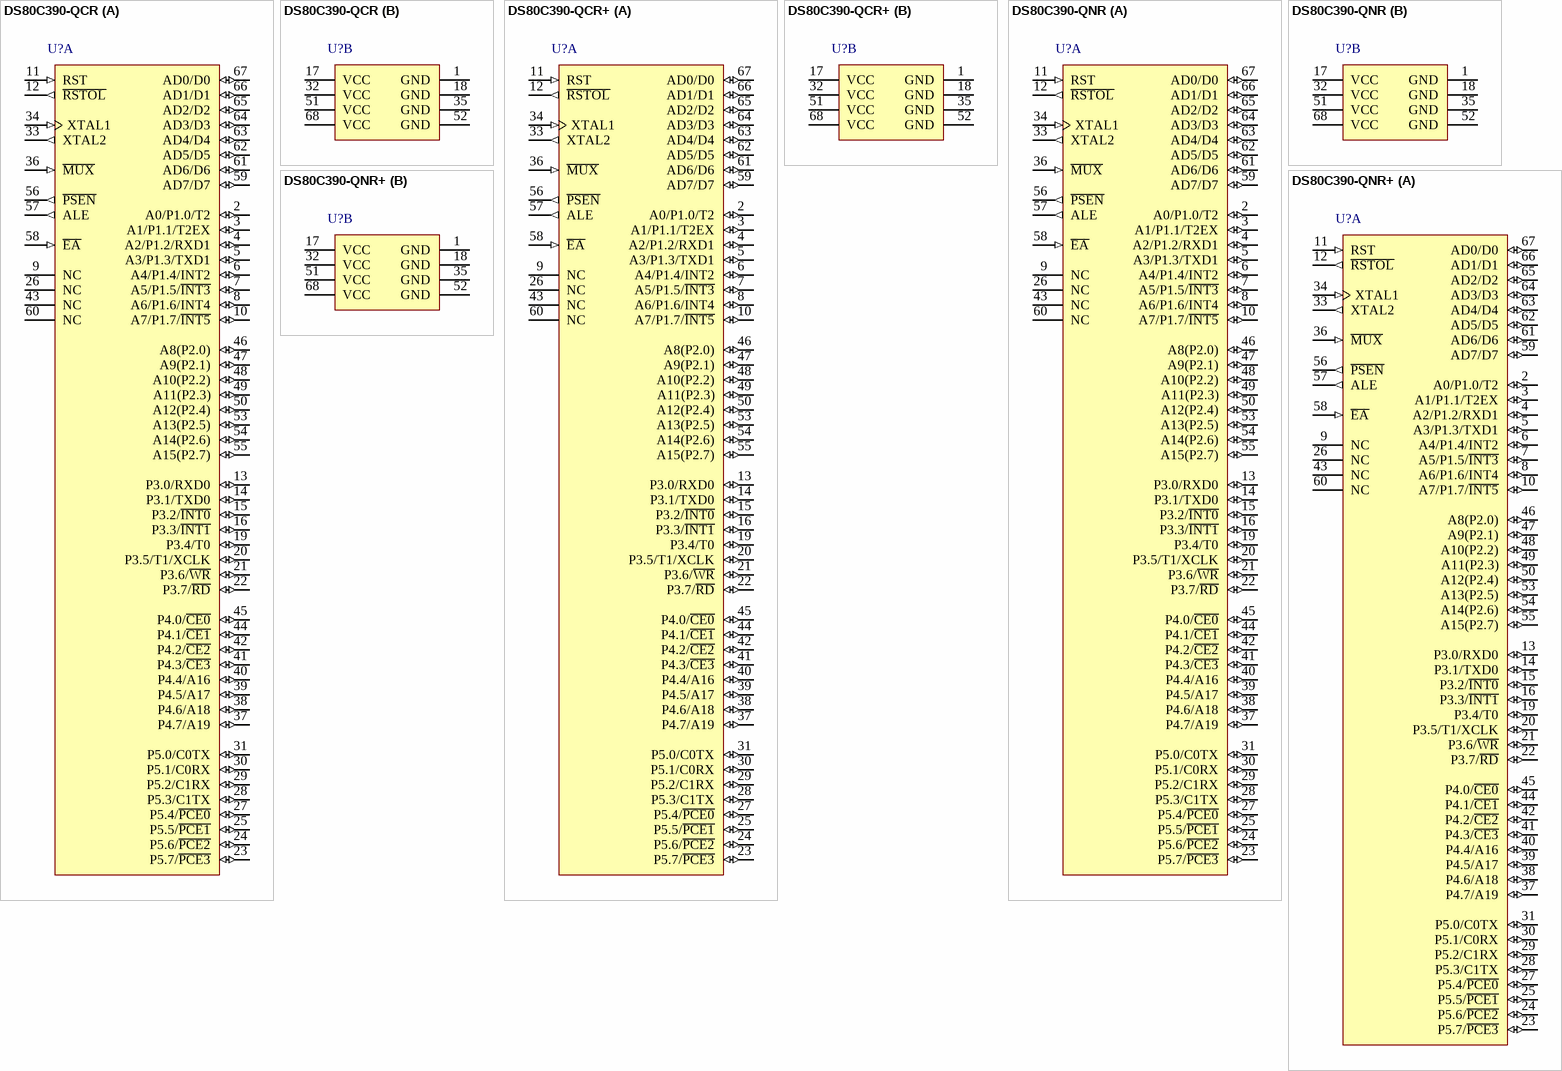
[diagram p6: symbols DS80C390-QCR to DS80C390-QNR+]

## DS80C390-QCR
designator U?
8-bit Dual CAN High-Speed Microprocessor, 40 MHz Max. Clock Speed, 68-pin PLCC, 0° to + 70° C; DatasheetVersion: 1/04/2009; PackageVersion: revE, 2009; PackageReference: Q68-1; PackageDescription: 68-Pin Plastic Leaded Chip Carrier 1.27 mm Pitch, PLCC; Code_JEDEC: MO-047-AE; ComponentLink1Description: Manufacturer URL; ComponentLink1URL: www.maxim-ic.com; ComponentLink2Description: Datasheet; ComponentLink2URL: http://datasheets.maxim-ic.com/en/ds/DS80C390.pdf
footprint Q68-1_N (Leaded Chip Carrier, 68-Leads, Body 24.2x24.2mm, Pitch 1.27mm, IPC Medium Density)
footprint Q68-1_L (Leaded Chip Carrier, 68-Leads, Body 24.2x24.2mm, Pitch 1.27mm, IPC High Density)
footprint Q68-1_M (Leaded Chip Carrier, 68-Leads, Body 24.2x24.2mm, Pitch 1.27mm, IPC Low Density)
part A pins: 2 A0/P1.0/T2 (io), 3 A1/P1.1/T2EX (io), 4 A2/P1.2/RXD1 (io), 5 A3/P1.3/TXD1 (io), 6 A4/P1.4/INT2 (io), 7 A5/P1.5/~{INT3} (io), 8 A6/P1.6/INT4 (io), 9 NC, 10 A7/P1.7/~{INT5} (io), 11 RST (in), 12 ~{RSTOL} (out), 13 P3.0/RXD0 (io), 14 P3.1/TXD0 (io), 15 P3.2/~{INT0} (io), 16 P3.3/~{INT1} (io), 19 P3.4/T0 (io), 20 P3.5/T1/XCLK (io), 21 P3.6/~{WR} (io), 22 P3.7/~{RD} (io), 23 P5.7/~{PCE3} (io), 24 P5.6/~{PCE2} (io), 25 P5.5/~{PCE1} (io), 26 NC, 27 P5.4/~{PCE0} (io), 28 P5.3/C1TX (io), 29 P5.2/C1RX (io), 30 P5.1/C0RX (io), 31 P5.0/C0TX (io), 33 XTAL2 (out), 34 XTAL1 (in), 36 ~{MUX} (in), 37 P4.7/A19 (io), 38 P4.6/A18 (io), 39 P4.5/A17 (io), 40 P4.4/A16 (io), 41 P4.3/~{CE3} (io), 42 P4.2/~{CE2} (io), 43 NC, 44 P4.1/~{CE1} (io), 45 P4.0/~{CE0} (io), 46 A8(P2.0) (io), 47 A9(P2.1) (io), 48 A10(P2.2) (io), 49 A11(P2.3) (io), 50 A12(P2.4) (io), 53 A13(P2.5) (io), 54 A14(P2.6) (io), 55 A15(P2.7) (io), 56 ~{PSEN} (out), 57 ALE (out), 58 ~{EA} (in), 59 AD7/D7 (io), 60 NC, 61 AD6/D6 (io), 62 AD5/D5 (io), 63 AD4/D4 (io), 64 AD3/D3 (io), 65 AD2/D2 (io), 66 AD1/D1 (io), 67 AD0/D0 (io)
part B pins: 1 GND (power), 17 VCC (power), 18 GND (power), 32 VCC (power), 35 GND (power), 51 VCC (power), 52 GND (power), 68 VCC (power)

## DS80C390-QCR+
designator U?
8-bit Dual CAN High-Speed Microprocessor, 40 MHz Max. Clock Speed, 68-pin PLCC, 0° to + 70° C, Pb-Free; DatasheetVersion: 1/04/2009; PackageVersion: revE, 2009; PackageReference: Q68+1; PackageDescription: 68-Pin Plastic Leaded Chip Carrier 1.27 mm Pitch, PLCC, Pb-Free; Code_JEDEC: MO-047-AE; ComponentLink1Description: Manufacturer URL; ComponentLink1URL: www.maxim-ic.com; ComponentLink2Description: Datasheet; ComponentLink2URL: http://datasheets.maxim-ic.com/en/ds/DS80C390.pdf
footprint Q68+1_N (Leaded Chip Carrier, 68-Leads, Body 24.2x24.2mm, Pitch 1.27mm, IPC Medium Density)
footprint Q68+1_L (Leaded Chip Carrier, 68-Leads, Body 24.2x24.2mm, Pitch 1.27mm, IPC High Density)
footprint Q68+1_M (Leaded Chip Carrier, 68-Leads, Body 24.2x24.2mm, Pitch 1.27mm, IPC Low Density)
part A pins: 2 A0/P1.0/T2 (io), 3 A1/P1.1/T2EX (io), 4 A2/P1.2/RXD1 (io), 5 A3/P1.3/TXD1 (io), 6 A4/P1.4/INT2 (io), 7 A5/P1.5/~{INT3} (io), 8 A6/P1.6/INT4 (io), 9 NC, 10 A7/P1.7/~{INT5} (io), 11 RST (in), 12 ~{RSTOL} (out), 13 P3.0/RXD0 (io), 14 P3.1/TXD0 (io), 15 P3.2/~{INT0} (io), 16 P3.3/~{INT1} (io), 19 P3.4/T0 (io), 20 P3.5/T1/XCLK (io), 21 P3.6/~{WR} (io), 22 P3.7/~{RD} (io), 23 P5.7/~{PCE3} (io), 24 P5.6/~{PCE2} (io), 25 P5.5/~{PCE1} (io), 26 NC, 27 P5.4/~{PCE0} (io), 28 P5.3/C1TX (io), 29 P5.2/C1RX (io), 30 P5.1/C0RX (io), 31 P5.0/C0TX (io), 33 XTAL2 (out), 34 XTAL1 (in), 36 ~{MUX} (in), 37 P4.7/A19 (io), 38 P4.6/A18 (io), 39 P4.5/A17 (io), 40 P4.4/A16 (io), 41 P4.3/~{CE3} (io), 42 P4.2/~{CE2} (io), 43 NC, 44 P4.1/~{CE1} (io), 45 P4.0/~{CE0} (io), 46 A8(P2.0) (io), 47 A9(P2.1) (io), 48 A10(P2.2) (io), 49 A11(P2.3) (io), 50 A12(P2.4) (io), 53 A13(P2.5) (io), 54 A14(P2.6) (io), 55 A15(P2.7) (io), 56 ~{PSEN} (out), 57 ALE (out), 58 ~{EA} (in), 59 AD7/D7 (io), 60 NC, 61 AD6/D6 (io), 62 AD5/D5 (io), 63 AD4/D4 (io), 64 AD3/D3 (io), 65 AD2/D2 (io), 66 AD1/D1 (io), 67 AD0/D0 (io)
part B pins: 1 GND (power), 17 VCC (power), 18 GND (power), 32 VCC (power), 35 GND (power), 51 VCC (power), 52 GND (power), 68 VCC (power)

## DS80C390-QNR
designator U?
8-bit Dual CAN High-Speed Microprocessor, 40 MHz Max. Clock Speed, 68-pin PLCC, -40° to + 85° C; DatasheetVersion: 1/04/2009; PackageVersion: revE, 2009; PackageReference: Q68-1; PackageDescription: 68-Pin Plastic Leaded Chip Carrier 1.27 mm Pitch, PLCC; Code_JEDEC: MO-047-AE; ComponentLink1Description: Manufacturer URL; ComponentLink1URL: www.maxim-ic.com; ComponentLink2Description: Datasheet; ComponentLink2URL: http://datasheets.maxim-ic.com/en/ds/DS80C390.pdf
footprint Q68-1_N (Leaded Chip Carrier, 68-Leads, Body 24.2x24.2mm, Pitch 1.27mm, IPC Medium Density)
footprint Q68-1_L (Leaded Chip Carrier, 68-Leads, Body 24.2x24.2mm, Pitch 1.27mm, IPC High Density)
footprint Q68-1_M (Leaded Chip Carrier, 68-Leads, Body 24.2x24.2mm, Pitch 1.27mm, IPC Low Density)
part A pins: 2 A0/P1.0/T2 (io), 3 A1/P1.1/T2EX (io), 4 A2/P1.2/RXD1 (io), 5 A3/P1.3/TXD1 (io), 6 A4/P1.4/INT2 (io), 7 A5/P1.5/~{INT3} (io), 8 A6/P1.6/INT4 (io), 9 NC, 10 A7/P1.7/~{INT5} (io), 11 RST (in), 12 ~{RSTOL} (out), 13 P3.0/RXD0 (io), 14 P3.1/TXD0 (io), 15 P3.2/~{INT0} (io), 16 P3.3/~{INT1} (io), 19 P3.4/T0 (io), 20 P3.5/T1/XCLK (io), 21 P3.6/~{WR} (io), 22 P3.7/~{RD} (io), 23 P5.7/~{PCE3} (io), 24 P5.6/~{PCE2} (io), 25 P5.5/~{PCE1} (io), 26 NC, 27 P5.4/~{PCE0} (io), 28 P5.3/C1TX (io), 29 P5.2/C1RX (io), 30 P5.1/C0RX (io), 31 P5.0/C0TX (io), 33 XTAL2 (out), 34 XTAL1 (in), 36 ~{MUX} (in), 37 P4.7/A19 (io), 38 P4.6/A18 (io), 39 P4.5/A17 (io), 40 P4.4/A16 (io), 41 P4.3/~{CE3} (io), 42 P4.2/~{CE2} (io), 43 NC, 44 P4.1/~{CE1} (io), 45 P4.0/~{CE0} (io), 46 A8(P2.0) (io), 47 A9(P2.1) (io), 48 A10(P2.2) (io), 49 A11(P2.3) (io), 50 A12(P2.4) (io), 53 A13(P2.5) (io), 54 A14(P2.6) (io), 55 A15(P2.7) (io), 56 ~{PSEN} (out), 57 ALE (out), 58 ~{EA} (in), 59 AD7/D7 (io), 60 NC, 61 AD6/D6 (io), 62 AD5/D5 (io), 63 AD4/D4 (io), 64 AD3/D3 (io), 65 AD2/D2 (io), 66 AD1/D1 (io), 67 AD0/D0 (io)
part B pins: 1 GND (power), 17 VCC (power), 18 GND (power), 32 VCC (power), 35 GND (power), 51 VCC (power), 52 GND (power), 68 VCC (power)

## DS80C390-QNR+
designator U?
8-bit Dual CAN High-Speed Microprocessor, 40 MHz Max. Clock Speed, 68-pin PLCC, -40° to + 85° C, Pb-Free; DatasheetVersion: 1/04/2009; PackageVersion: revE, 2009; PackageReference: Q68+1; PackageDescription: 68-Pin Plastic Leaded Chip Carrier 1.27 mm Pitch, PLCC, Pb-Free; Code_JEDEC: MO-047-AE; ComponentLink1Description: Manufacturer URL; ComponentLink1URL: www.maxim-ic.com; ComponentLink2Description: Datasheet; ComponentLink2URL: http://datasheets.maxim-ic.com/en/ds/DS80C390.pdf
footprint Q68+1_N (Leaded Chip Carrier, 68-Leads, Body 24.2x24.2mm, Pitch 1.27mm, IPC Medium Density)
footprint Q68+1_L (Leaded Chip Carrier, 68-Leads, Body 24.2x24.2mm, Pitch 1.27mm, IPC High Density)
footprint Q68+1_M (Leaded Chip Carrier, 68-Leads, Body 24.2x24.2mm, Pitch 1.27mm, IPC Low Density)
part A pins: 2 A0/P1.0/T2 (io), 3 A1/P1.1/T2EX (io), 4 A2/P1.2/RXD1 (io), 5 A3/P1.3/TXD1 (io), 6 A4/P1.4/INT2 (io), 7 A5/P1.5/~{INT3} (io), 8 A6/P1.6/INT4 (io), 9 NC, 10 A7/P1.7/~{INT5} (io), 11 RST (in), 12 ~{RSTOL} (out), 13 P3.0/RXD0 (io), 14 P3.1/TXD0 (io), 15 P3.2/~{INT0} (io), 16 P3.3/~{INT1} (io), 19 P3.4/T0 (io), 20 P3.5/T1/XCLK (io), 21 P3.6/~{WR} (io), 22 P3.7/~{RD} (io), 23 P5.7/~{PCE3} (io), 24 P5.6/~{PCE2} (io), 25 P5.5/~{PCE1} (io), 26 NC, 27 P5.4/~{PCE0} (io), 28 P5.3/C1TX (io), 29 P5.2/C1RX (io), 30 P5.1/C0RX (io), 31 P5.0/C0TX (io), 33 XTAL2 (out), 34 XTAL1 (in), 36 ~{MUX} (in), 37 P4.7/A19 (io), 38 P4.6/A18 (io), 39 P4.5/A17 (io), 40 P4.4/A16 (io), 41 P4.3/~{CE3} (io), 42 P4.2/~{CE2} (io), 43 NC, 44 P4.1/~{CE1} (io), 45 P4.0/~{CE0} (io), 46 A8(P2.0) (io), 47 A9(P2.1) (io), 48 A10(P2.2) (io), 49 A11(P2.3) (io), 50 A12(P2.4) (io), 53 A13(P2.5) (io), 54 A14(P2.6) (io), 55 A15(P2.7) (io), 56 ~{PSEN} (out), 57 ALE (out), 58 ~{EA} (in), 59 AD7/D7 (io), 60 NC, 61 AD6/D6 (io), 62 AD5/D5 (io), 63 AD4/D4 (io), 64 AD3/D3 (io), 65 AD2/D2 (io), 66 AD1/D1 (io), 67 AD0/D0 (io)
part B pins: 1 GND (power), 17 VCC (power), 18 GND (power), 32 VCC (power), 35 GND (power), 51 VCC (power), 52 GND (power), 68 VCC (power)

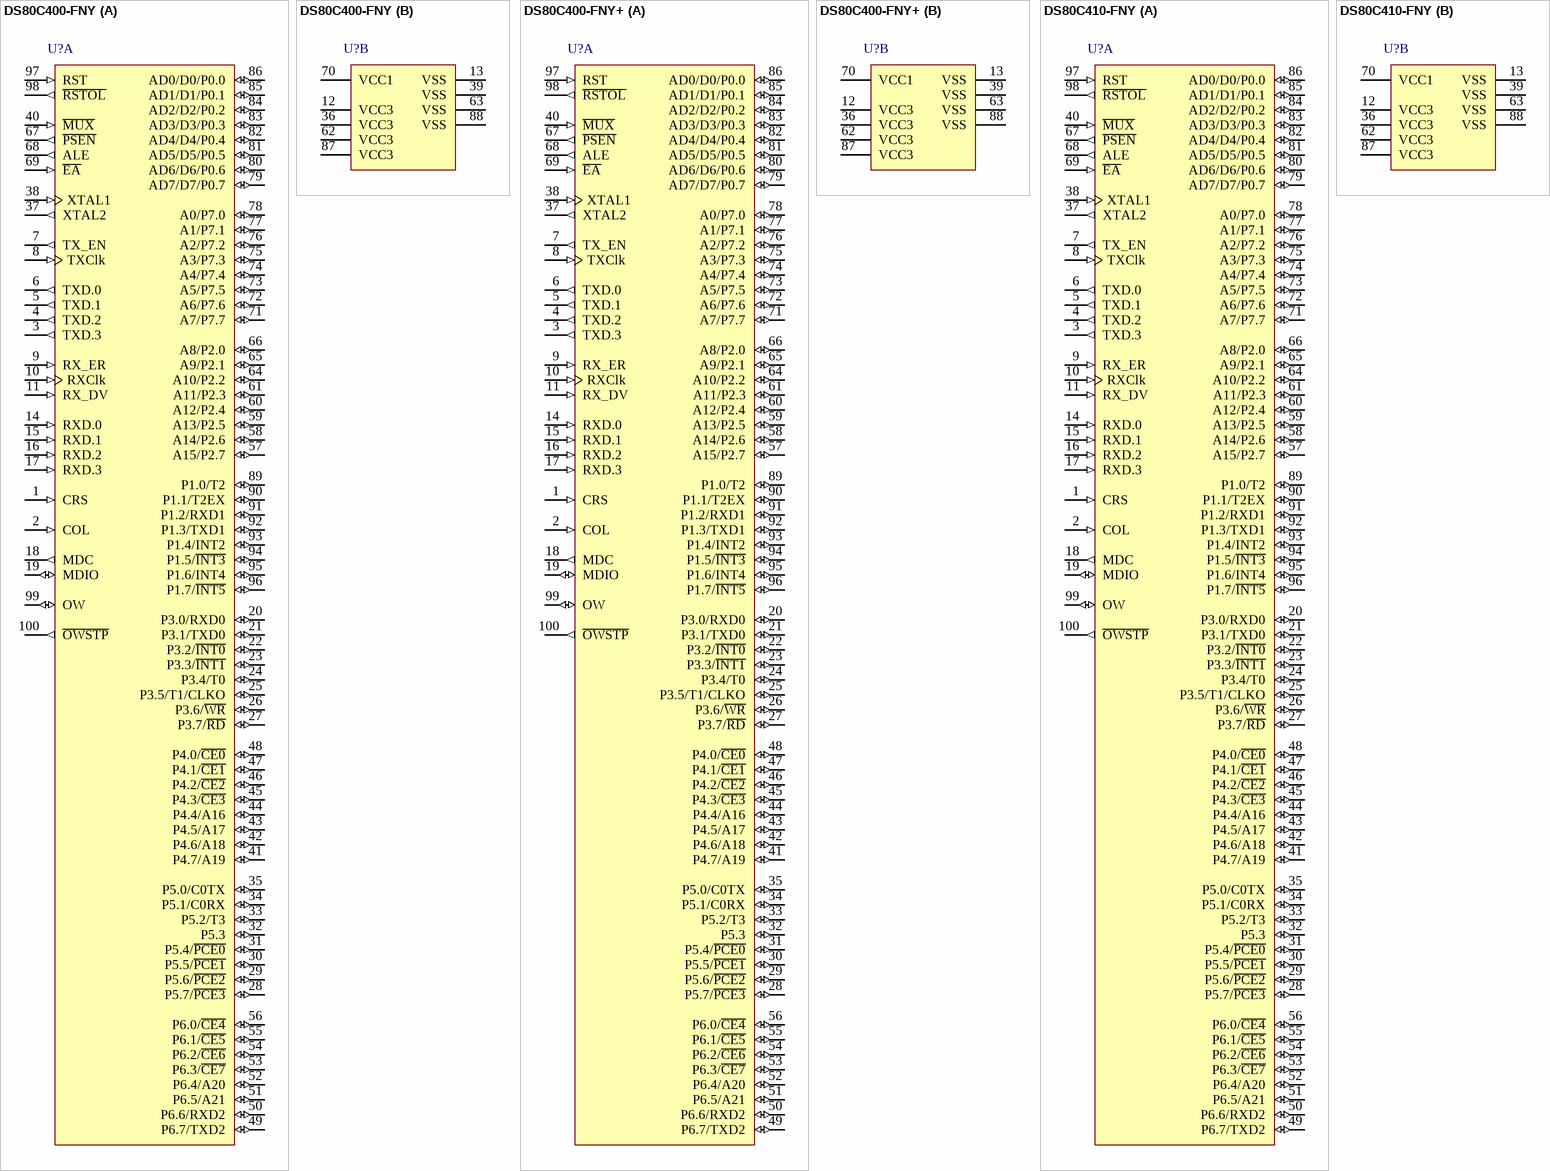
[diagram p7: symbols DS80C400-FNY to DS80C410-FNY]

## DS80C400-FNY
designator U?
8-bit Network Microcontroller, 75 MHz Max. Clock Speed, 100-pin LQFP, -40° to + 85° C; DatasheetVersion: 1/06/2009; PackageVersion: revB, 2009; PackageReference: C100L-1; PackageDescription: 100-Pin Low Quad Flatpack, 14 x 14 x 1.4 mm Body, 0.5 mm Pitch, LQFP; ComponentLink1Description: Manufacturer URL; ComponentLink1URL: www.maxim-ic.com; ComponentLink2Description: Datasheet; ComponentLink2URL: http://datasheets.maxim-ic.com/en/ds/DS80C400.pdf
footprint C100L-1_N (Thin QFP, 100-Leads, Body 14x14mm, Pitch 0.5mm, IPC Medium Density)
footprint C100L-1_L (Thin QFP, 100-Leads, Body 14x14mm, Pitch 0.5mm, IPC High Density)
footprint C100L-1_M (Thin QFP, 100-Leads, Body 14x14mm, Pitch 0.5mm, IPC Low Density)
part A pins: 1 CRS (in), 2 COL (in), 3 TXD.3 (out), 4 TXD.2 (out), 5 TXD.1 (out), 6 TXD.0 (out), 7 TX_EN (out), 8 TXClk (in), 9 RX_ER (in), 10 RXClk (in), 11 RX_DV (in), 14 RXD.0 (in), 15 RXD.1 (in), 16 RXD.2 (in), 17 RXD.3 (in), 18 MDC (out), 19 MDIO (io), 20 P3.0/RXD0 (io), 21 P3.1/TXD0 (io), 22 P3.2/~{INT0} (io), 23 P3.3/~{INT1} (io), 24 P3.4/T0 (io), 25 P3.5/T1/CLKO (io), 26 P3.6/~{WR} (io), 27 P3.7/~{RD} (io), 28 P5.7/~{PCE3} (io), 29 P5.6/~{PCE2} (io), 30 P5.5/~{PCE1} (io), 31 P5.4/~{PCE0} (io), 32 P5.3 (io), 33 P5.2/T3 (io), 34 P5.1/C0RX (io), 35 P5.0/C0TX (io), 37 XTAL2 (out), 38 XTAL1 (in), 40 ~{MUX} (in), 41 P4.7/A19 (io), 42 P4.6/A18 (io), 43 P4.5/A17 (io), 44 P4.4/A16 (io), 45 P4.3/~{CE3} (io), 46 P4.2/~{CE2} (io), 47 P4.1/~{CE1} (io), 48 P4.0/~{CE0} (io), 49 P6.7/TXD2 (io), 50 P6.6/RXD2 (io), 51 P6.5/A21 (io), 52 P6.4/A20 (io), 53 P6.3/~{CE7} (io), 54 P6.2/~{CE6} (io), 55 P6.1/~{CE5} (io), 56 P6.0/~{CE4} (io), 57 A15/P2.7 (io), 58 A14/P2.6 (io), 59 A13/P2.5 (io), 60 A12/P2.4 (io), 61 A11/P2.3 (io), 64 A10/P2.2 (io), 65 A9/P2.1 (io), 66 A8/P2.0 (io), 67 ~{PSEN} (out), 68 ALE (out), 69 ~{EA} (in), 71 A7/P7.7 (io), 72 A6/P7.6 (io), 73 A5/P7.5 (io), 74 A4/P7.4 (io), 75 A3/P7.3 (io), 76 A2/P7.2 (io), 77 A1/P7.1 (io), 78 A0/P7.0 (io), 79 AD7/D7/P0.7 (io), 80 AD6/D6/P0.6 (io), 81 AD5/D5/P0.5 (io), 82 AD4/D4/P0.4 (io), 83 AD3/D3/P0.3 (io), 84 AD2/D2/P0.2 (io), 85 AD1/D1/P0.1 (io), 86 AD0/D0/P0.0 (io), 89 P1.0/T2 (io), 90 P1.1/T2EX (io), 91 P1.2/RXD1 (io), 92 P1.3/TXD1 (io), 93 P1.4/INT2 (io), 94 P1.5/~{INT3} (io), 95 P1.6/INT4 (io), 96 P1.7/~{INT5} (io), 97 RST (in), 98 ~{RSTOL} (out), 99 OW (io), 100 ~{OWSTP} (out)
part B pins: 12 VCC3 (power), 13 VSS (power), 36 VCC3 (power), 39 VSS (power), 62 VCC3 (power), 63 VSS (power), 70 VCC1 (power), 87 VCC3 (power), 88 VSS (power)

## DS80C400-FNY+
designator U?
8-bit Network Microcontroller, 75 MHz Max. Clock Speed, 100-pin LQFP, -40° to + 85° C, Pb-Free; DatasheetVersion: 1/06/2009; PackageVersion: revB, 2009; PackageReference: C100L+1; PackageDescription: 100-Pin Low Quad Flatpack, 14 x 14 x 1.4 mm Body, 0.5 mm Pitch, LQFP, Pb-Free; ComponentLink1Description: Manufacturer URL; ComponentLink1URL: www.maxim-ic.com; ComponentLink2Description: Datasheet; ComponentLink2URL: http://datasheets.maxim-ic.com/en/ds/DS80C400.pdf
footprint C100L+1_N (Thin QFP, 100-Leads, Body 14x14mm, Pitch 0.5mm, IPC Medium Density)
footprint C100L+1_L (Thin QFP, 100-Leads, Body 14x14mm, Pitch 0.5mm, IPC High Density)
footprint C100L+1_M (Thin QFP, 100-Leads, Body 14x14mm, Pitch 0.5mm, IPC Low Density)
part A pins: 1 CRS (in), 2 COL (in), 3 TXD.3 (out), 4 TXD.2 (out), 5 TXD.1 (out), 6 TXD.0 (out), 7 TX_EN (out), 8 TXClk (in), 9 RX_ER (in), 10 RXClk (in), 11 RX_DV (in), 14 RXD.0 (in), 15 RXD.1 (in), 16 RXD.2 (in), 17 RXD.3 (in), 18 MDC (out), 19 MDIO (io), 20 P3.0/RXD0 (io), 21 P3.1/TXD0 (io), 22 P3.2/~{INT0} (io), 23 P3.3/~{INT1} (io), 24 P3.4/T0 (io), 25 P3.5/T1/CLKO (io), 26 P3.6/~{WR} (io), 27 P3.7/~{RD} (io), 28 P5.7/~{PCE3} (io), 29 P5.6/~{PCE2} (io), 30 P5.5/~{PCE1} (io), 31 P5.4/~{PCE0} (io), 32 P5.3 (io), 33 P5.2/T3 (io), 34 P5.1/C0RX (io), 35 P5.0/C0TX (io), 37 XTAL2 (out), 38 XTAL1 (in), 40 ~{MUX} (in), 41 P4.7/A19 (io), 42 P4.6/A18 (io), 43 P4.5/A17 (io), 44 P4.4/A16 (io), 45 P4.3/~{CE3} (io), 46 P4.2/~{CE2} (io), 47 P4.1/~{CE1} (io), 48 P4.0/~{CE0} (io), 49 P6.7/TXD2 (io), 50 P6.6/RXD2 (io), 51 P6.5/A21 (io), 52 P6.4/A20 (io), 53 P6.3/~{CE7} (io), 54 P6.2/~{CE6} (io), 55 P6.1/~{CE5} (io), 56 P6.0/~{CE4} (io), 57 A15/P2.7 (io), 58 A14/P2.6 (io), 59 A13/P2.5 (io), 60 A12/P2.4 (io), 61 A11/P2.3 (io), 64 A10/P2.2 (io), 65 A9/P2.1 (io), 66 A8/P2.0 (io), 67 ~{PSEN} (out), 68 ALE (out), 69 ~{EA} (in), 71 A7/P7.7 (io), 72 A6/P7.6 (io), 73 A5/P7.5 (io), 74 A4/P7.4 (io), 75 A3/P7.3 (io), 76 A2/P7.2 (io), 77 A1/P7.1 (io), 78 A0/P7.0 (io), 79 AD7/D7/P0.7 (io), 80 AD6/D6/P0.6 (io), 81 AD5/D5/P0.5 (io), 82 AD4/D4/P0.4 (io), 83 AD3/D3/P0.3 (io), 84 AD2/D2/P0.2 (io), 85 AD1/D1/P0.1 (io), 86 AD0/D0/P0.0 (io), 89 P1.0/T2 (io), 90 P1.1/T2EX (io), 91 P1.2/RXD1 (io), 92 P1.3/TXD1 (io), 93 P1.4/INT2 (io), 94 P1.5/~{INT3} (io), 95 P1.6/INT4 (io), 96 P1.7/~{INT5} (io), 97 RST (in), 98 ~{RSTOL} (out), 99 OW (io), 100 ~{OWSTP} (out)
part B pins: 12 VCC3 (power), 13 VSS (power), 36 VCC3 (power), 39 VSS (power), 62 VCC3 (power), 63 VSS (power), 70 VCC1 (power), 87 VCC3 (power), 88 VSS (power)

## DS80C410-FNY
designator U?
8-bit Network Microcontroller with Ethernet and CAN, 75 MHz Max. Clock Speed, 100-pin LQFP, -40° to + 85° C; DatasheetVersion: 1/06/2009; PackageVersion: revB, 2009; PackageReference: C100L-1; PackageDescription: 100-Pin Low Quad Flatpack, 14 x 14 x 1.4 mm Body, 0.5 mm Pitch, LQFP; ComponentLink1Description: Manufacturer URL; ComponentLink1URL: www.maxim-ic.com; ComponentLink2Description: Datasheet; ComponentLink2URL: http://datasheets.maxim-ic.com/en/ds/DS80C410-DS80C411.pdf
footprint C100L-1_N (Thin QFP, 100-Leads, Body 14x14mm, Pitch 0.5mm, IPC Medium Density)
footprint C100L-1_L (Thin QFP, 100-Leads, Body 14x14mm, Pitch 0.5mm, IPC High Density)
footprint C100L-1_M (Thin QFP, 100-Leads, Body 14x14mm, Pitch 0.5mm, IPC Low Density)
part A pins: 1 CRS (in), 2 COL (in), 3 TXD.3 (out), 4 TXD.2 (out), 5 TXD.1 (out), 6 TXD.0 (out), 7 TX_EN (out), 8 TXClk (in), 9 RX_ER (in), 10 RXClk (in), 11 RX_DV (in), 14 RXD.0 (in), 15 RXD.1 (in), 16 RXD.2 (in), 17 RXD.3 (in), 18 MDC (out), 19 MDIO (io), 20 P3.0/RXD0 (io), 21 P3.1/TXD0 (io), 22 P3.2/~{INT0} (io), 23 P3.3/~{INT1} (io), 24 P3.4/T0 (io), 25 P3.5/T1/CLKO (io), 26 P3.6/~{WR} (io), 27 P3.7/~{RD} (io), 28 P5.7/~{PCE3} (io), 29 P5.6/~{PCE2} (io), 30 P5.5/~{PCE1} (io), 31 P5.4/~{PCE0} (io), 32 P5.3 (io), 33 P5.2/T3 (io), 34 P5.1/C0RX (io), 35 P5.0/C0TX (io), 37 XTAL2 (out), 38 XTAL1 (in), 40 ~{MUX} (in), 41 P4.7/A19 (io), 42 P4.6/A18 (io), 43 P4.5/A17 (io), 44 P4.4/A16 (io), 45 P4.3/~{CE3} (io), 46 P4.2/~{CE2} (io), 47 P4.1/~{CE1} (io), 48 P4.0/~{CE0} (io), 49 P6.7/TXD2 (io), 50 P6.6/RXD2 (io), 51 P6.5/A21 (io), 52 P6.4/A20 (io), 53 P6.3/~{CE7} (io), 54 P6.2/~{CE6} (io), 55 P6.1/~{CE5} (io), 56 P6.0/~{CE4} (io), 57 A15/P2.7 (io), 58 A14/P2.6 (io), 59 A13/P2.5 (io), 60 A12/P2.4 (io), 61 A11/P2.3 (io), 64 A10/P2.2 (io), 65 A9/P2.1 (io), 66 A8/P2.0 (io), 67 ~{PSEN} (out), 68 ALE (out), 69 ~{EA} (in), 71 A7/P7.7 (io), 72 A6/P7.6 (io), 73 A5/P7.5 (io), 74 A4/P7.4 (io), 75 A3/P7.3 (io), 76 A2/P7.2 (io), 77 A1/P7.1 (io), 78 A0/P7.0 (io), 79 AD7/D7/P0.7 (io), 80 AD6/D6/P0.6 (io), 81 AD5/D5/P0.5 (io), 82 AD4/D4/P0.4 (io), 83 AD3/D3/P0.3 (io), 84 AD2/D2/P0.2 (io), 85 AD1/D1/P0.1 (io), 86 AD0/D0/P0.0 (io), 89 P1.0/T2 (io), 90 P1.1/T2EX (io), 91 P1.2/RXD1 (io), 92 P1.3/TXD1 (io), 93 P1.4/INT2 (io), 94 P1.5/~{INT3} (io), 95 P1.6/INT4 (io), 96 P1.7/~{INT5} (io), 97 RST (in), 98 ~{RSTOL} (out), 99 OW (io), 100 ~{OWSTP} (out)
part B pins: 12 VCC3 (power), 13 VSS (power), 36 VCC3 (power), 39 VSS (power), 62 VCC3 (power), 63 VSS (power), 70 VCC1 (power), 87 VCC3 (power), 88 VSS (power)

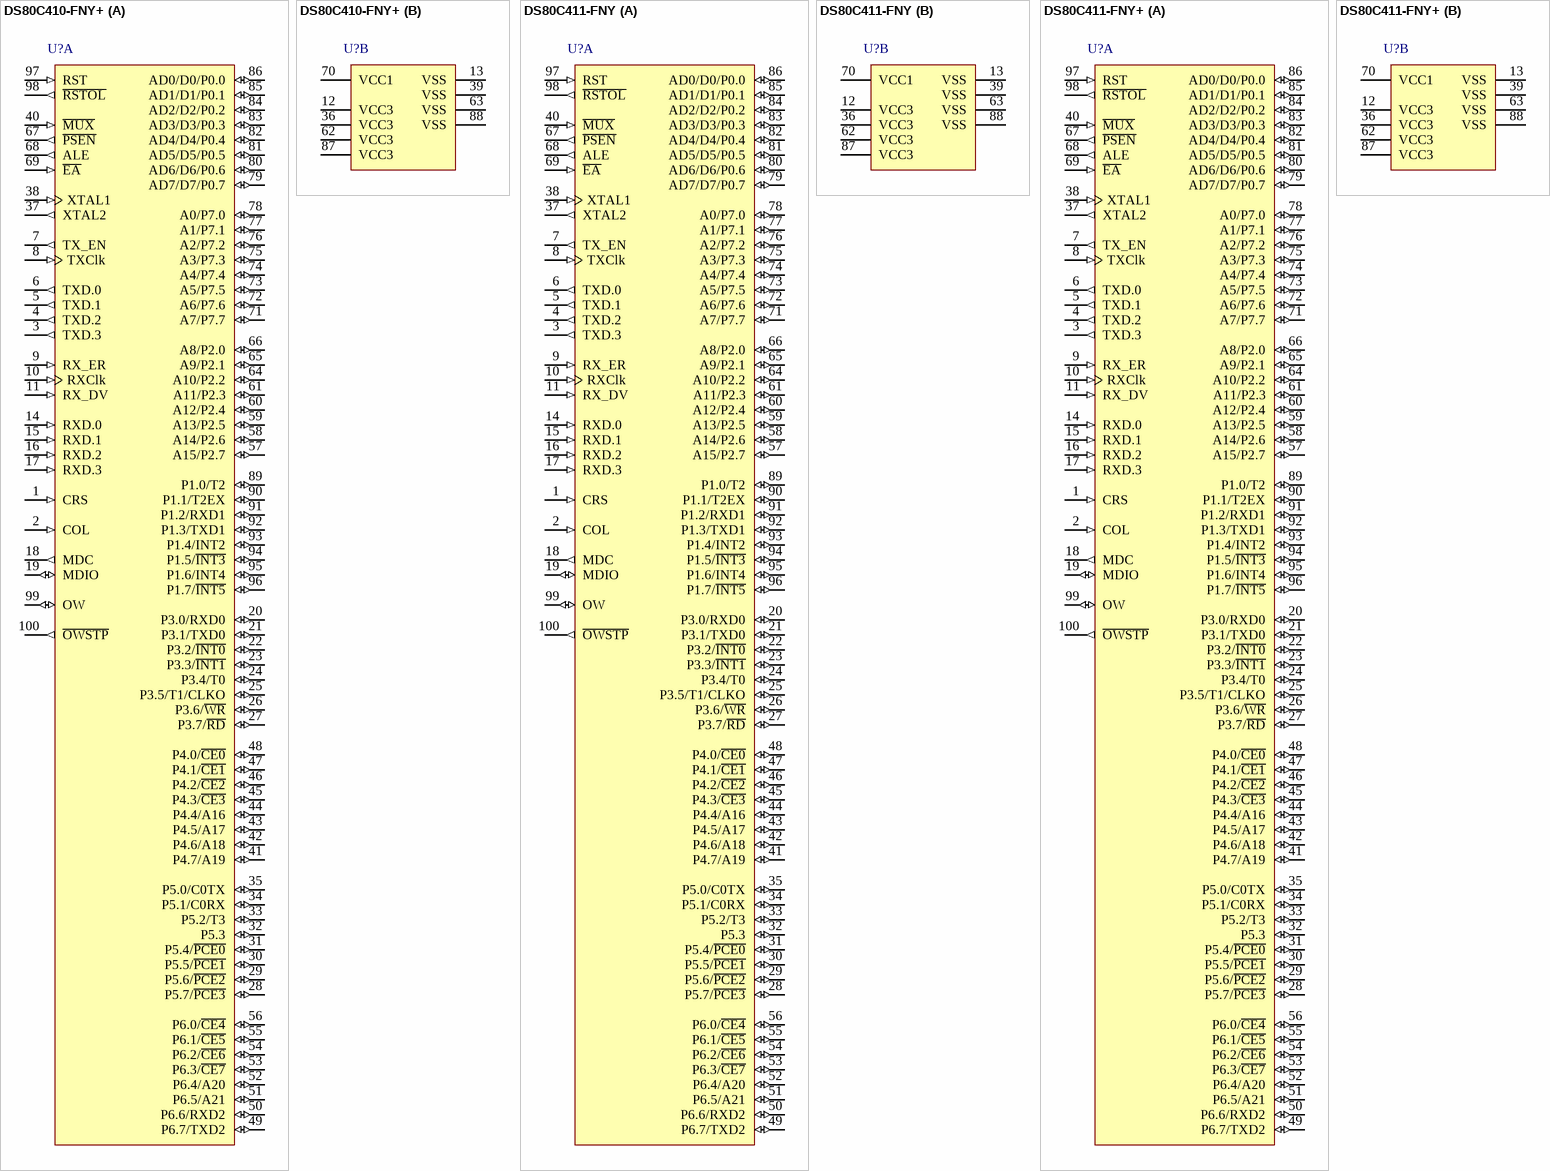
[diagram p8: symbols DS80C410-FNY+ to DS80C411-FNY+]

## DS80C410-FNY+
designator U?
8-bit Network Microcontroller with Ethernet and CAN, 75 MHz Max. Clock Speed, 100-pin LQFP, -40° to + 85° C, Pb-Free; DatasheetVersion: 1/06/2009; PackageVersion: revB, 2009; PackageReference: C100L+1; PackageDescription: 100-Pin Low Quad Flatpack, 14 x 14 x 1.4 mm Body, 0.5 mm Pitch, LQFP, Pb-Free; ComponentLink1Description: Manufacturer URL; ComponentLink1URL: www.maxim-ic.com; ComponentLink2Description: Datasheet; ComponentLink2URL: http://datasheets.maxim-ic.com/en/ds/DS80C410-DS80C411.pdf
footprint C100L+1_N (Thin QFP, 100-Leads, Body 14x14mm, Pitch 0.5mm, IPC Medium Density)
footprint C100L+1_L (Thin QFP, 100-Leads, Body 14x14mm, Pitch 0.5mm, IPC High Density)
footprint C100L+1_M (Thin QFP, 100-Leads, Body 14x14mm, Pitch 0.5mm, IPC Low Density)
part A pins: 1 CRS (in), 2 COL (in), 3 TXD.3 (out), 4 TXD.2 (out), 5 TXD.1 (out), 6 TXD.0 (out), 7 TX_EN (out), 8 TXClk (in), 9 RX_ER (in), 10 RXClk (in), 11 RX_DV (in), 14 RXD.0 (in), 15 RXD.1 (in), 16 RXD.2 (in), 17 RXD.3 (in), 18 MDC (out), 19 MDIO (io), 20 P3.0/RXD0 (io), 21 P3.1/TXD0 (io), 22 P3.2/~{INT0} (io), 23 P3.3/~{INT1} (io), 24 P3.4/T0 (io), 25 P3.5/T1/CLKO (io), 26 P3.6/~{WR} (io), 27 P3.7/~{RD} (io), 28 P5.7/~{PCE3} (io), 29 P5.6/~{PCE2} (io), 30 P5.5/~{PCE1} (io), 31 P5.4/~{PCE0} (io), 32 P5.3 (io), 33 P5.2/T3 (io), 34 P5.1/C0RX (io), 35 P5.0/C0TX (io), 37 XTAL2 (out), 38 XTAL1 (in), 40 ~{MUX} (in), 41 P4.7/A19 (io), 42 P4.6/A18 (io), 43 P4.5/A17 (io), 44 P4.4/A16 (io), 45 P4.3/~{CE3} (io), 46 P4.2/~{CE2} (io), 47 P4.1/~{CE1} (io), 48 P4.0/~{CE0} (io), 49 P6.7/TXD2 (io), 50 P6.6/RXD2 (io), 51 P6.5/A21 (io), 52 P6.4/A20 (io), 53 P6.3/~{CE7} (io), 54 P6.2/~{CE6} (io), 55 P6.1/~{CE5} (io), 56 P6.0/~{CE4} (io), 57 A15/P2.7 (io), 58 A14/P2.6 (io), 59 A13/P2.5 (io), 60 A12/P2.4 (io), 61 A11/P2.3 (io), 64 A10/P2.2 (io), 65 A9/P2.1 (io), 66 A8/P2.0 (io), 67 ~{PSEN} (out), 68 ALE (out), 69 ~{EA} (in), 71 A7/P7.7 (io), 72 A6/P7.6 (io), 73 A5/P7.5 (io), 74 A4/P7.4 (io), 75 A3/P7.3 (io), 76 A2/P7.2 (io), 77 A1/P7.1 (io), 78 A0/P7.0 (io), 79 AD7/D7/P0.7 (io), 80 AD6/D6/P0.6 (io), 81 AD5/D5/P0.5 (io), 82 AD4/D4/P0.4 (io), 83 AD3/D3/P0.3 (io), 84 AD2/D2/P0.2 (io), 85 AD1/D1/P0.1 (io), 86 AD0/D0/P0.0 (io), 89 P1.0/T2 (io), 90 P1.1/T2EX (io), 91 P1.2/RXD1 (io), 92 P1.3/TXD1 (io), 93 P1.4/INT2 (io), 94 P1.5/~{INT3} (io), 95 P1.6/INT4 (io), 96 P1.7/~{INT5} (io), 97 RST (in), 98 ~{RSTOL} (out), 99 OW (io), 100 ~{OWSTP} (out)
part B pins: 12 VCC3 (power), 13 VSS (power), 36 VCC3 (power), 39 VSS (power), 62 VCC3 (power), 63 VSS (power), 70 VCC1 (power), 87 VCC3 (power), 88 VSS (power)

## DS80C411-FNY
designator U?
8-bit Network Microcontroller with Ethernet and CAN, 75 MHz Max. Clock Speed, 100-pin LQFP, -40° to + 85° C; DatasheetVersion: 1/06/2009; PackageVersion: revB, 2009; PackageReference: C100L-1; PackageDescription: 100-Pin Low Quad Flatpack, 14 x 14 x 1.4 mm Body, 0.5 mm Pitch, LQFP; ComponentLink1Description: Manufacturer URL; ComponentLink1URL: www.maxim-ic.com; ComponentLink2Description: Datasheet; ComponentLink2URL: http://datasheets.maxim-ic.com/en/ds/DS80C410-DS80C411.pdf
footprint C100L-1_N (Thin QFP, 100-Leads, Body 14x14mm, Pitch 0.5mm, IPC Medium Density)
footprint C100L-1_L (Thin QFP, 100-Leads, Body 14x14mm, Pitch 0.5mm, IPC High Density)
footprint C100L-1_M (Thin QFP, 100-Leads, Body 14x14mm, Pitch 0.5mm, IPC Low Density)
part A pins: 1 CRS (in), 2 COL (in), 3 TXD.3 (out), 4 TXD.2 (out), 5 TXD.1 (out), 6 TXD.0 (out), 7 TX_EN (out), 8 TXClk (in), 9 RX_ER (in), 10 RXClk (in), 11 RX_DV (in), 14 RXD.0 (in), 15 RXD.1 (in), 16 RXD.2 (in), 17 RXD.3 (in), 18 MDC (out), 19 MDIO (io), 20 P3.0/RXD0 (io), 21 P3.1/TXD0 (io), 22 P3.2/~{INT0} (io), 23 P3.3/~{INT1} (io), 24 P3.4/T0 (io), 25 P3.5/T1/CLKO (io), 26 P3.6/~{WR} (io), 27 P3.7/~{RD} (io), 28 P5.7/~{PCE3} (io), 29 P5.6/~{PCE2} (io), 30 P5.5/~{PCE1} (io), 31 P5.4/~{PCE0} (io), 32 P5.3 (io), 33 P5.2/T3 (io), 34 P5.1/C0RX (io), 35 P5.0/C0TX (io), 37 XTAL2 (out), 38 XTAL1 (in), 40 ~{MUX} (in), 41 P4.7/A19 (io), 42 P4.6/A18 (io), 43 P4.5/A17 (io), 44 P4.4/A16 (io), 45 P4.3/~{CE3} (io), 46 P4.2/~{CE2} (io), 47 P4.1/~{CE1} (io), 48 P4.0/~{CE0} (io), 49 P6.7/TXD2 (io), 50 P6.6/RXD2 (io), 51 P6.5/A21 (io), 52 P6.4/A20 (io), 53 P6.3/~{CE7} (io), 54 P6.2/~{CE6} (io), 55 P6.1/~{CE5} (io), 56 P6.0/~{CE4} (io), 57 A15/P2.7 (io), 58 A14/P2.6 (io), 59 A13/P2.5 (io), 60 A12/P2.4 (io), 61 A11/P2.3 (io), 64 A10/P2.2 (io), 65 A9/P2.1 (io), 66 A8/P2.0 (io), 67 ~{PSEN} (out), 68 ALE (out), 69 ~{EA} (in), 71 A7/P7.7 (io), 72 A6/P7.6 (io), 73 A5/P7.5 (io), 74 A4/P7.4 (io), 75 A3/P7.3 (io), 76 A2/P7.2 (io), 77 A1/P7.1 (io), 78 A0/P7.0 (io), 79 AD7/D7/P0.7 (io), 80 AD6/D6/P0.6 (io), 81 AD5/D5/P0.5 (io), 82 AD4/D4/P0.4 (io), 83 AD3/D3/P0.3 (io), 84 AD2/D2/P0.2 (io), 85 AD1/D1/P0.1 (io), 86 AD0/D0/P0.0 (io), 89 P1.0/T2 (io), 90 P1.1/T2EX (io), 91 P1.2/RXD1 (io), 92 P1.3/TXD1 (io), 93 P1.4/INT2 (io), 94 P1.5/~{INT3} (io), 95 P1.6/INT4 (io), 96 P1.7/~{INT5} (io), 97 RST (in), 98 ~{RSTOL} (out), 99 OW (io), 100 ~{OWSTP} (out)
part B pins: 12 VCC3 (power), 13 VSS (power), 36 VCC3 (power), 39 VSS (power), 62 VCC3 (power), 63 VSS (power), 70 VCC1 (power), 87 VCC3 (power), 88 VSS (power)